# Altium integrated library Xilinx Spartan-3.IntLib: 75 symbols (part 9 of 16)
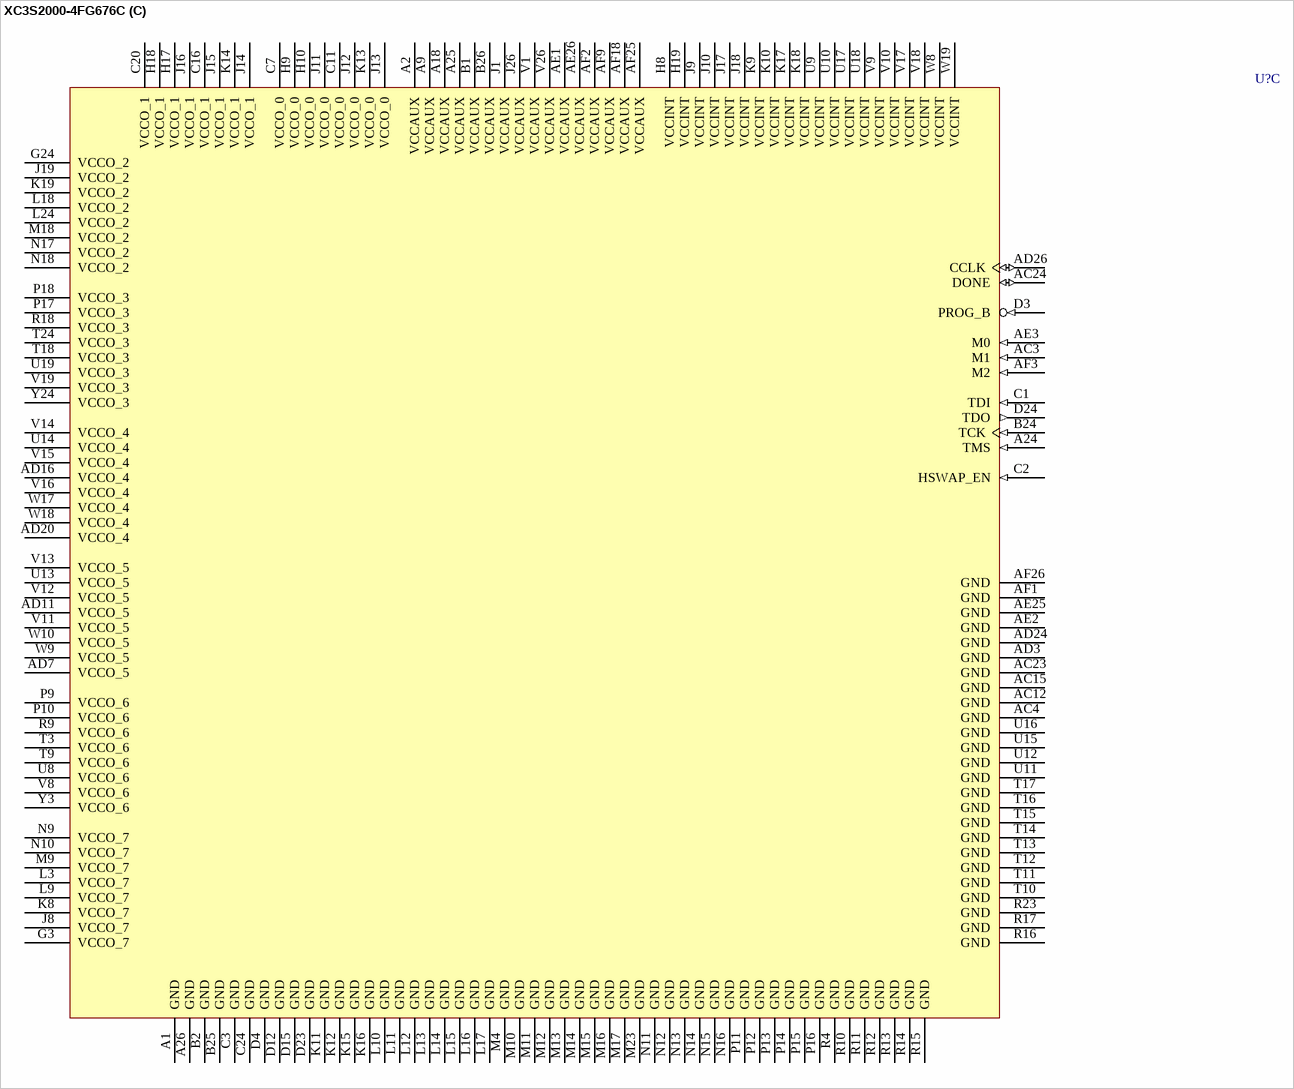
[diagram p175: symbol XC3S2000-4FG676C]

## XC3S2000-4FG676C
designator U?
Spartan-3 1.2V FPGA, 489 User I/Os, 676-ball FBGA, Standard Performance, Commercial Grade; PackageDocument: ver1.1, Apr-2001; Published: 17-Sep-2003; DatasheetDocument: 04-Mar-2004; PackageReference: FG676; Publisher: Altium Limited; Code_JEDEC: MS-034-AAL-1; Code_IPC: PBGA 27X27 FE676
footprint FG676 (676-Ball Fine Pitch Ball Grid Array (FG676))
3D model XC3S2000-FG676 (676-Ball Fine Pitch Ball Grid Array (FG676))
signal-integrity model XC3S2000_FG676 (Spartan-3)
part A pins: A3 IO (io), A4 IO_L05P_0/VREF_0 (io), A5 IO (io), A6 IO (io), A7 IO_L10P_0 (io), A8 IO_L15P_0 (io), A10 IO_L23P_0 (io), A11 IO_L26P_0/VREF_0 (io), A12 IO_L29P_0 (io), A13 IO_L32P_0/GCLK6 (io), AA1 IO_L09P_6 (io), AA2 IO_L09N_6/VREF_6 (io), AA3 IO_L07P_6 (io), AA4 IO_L07N_6 (io), AA5 IO (io), AA14 IO_L30P_4/D3 (io), AA15 IO_L28N_4 (io), AA16 IO_L24P_4 (io), AA17 IO_L19P_4 (io), AA18 IO_L16P_4 (io), AA19 IO_L11P_4 (io), AA20 IO (io), AB1 IO_L05P_6 (io), AB2 IO_L05N_6 (io), AB3 IO_L02P_6 (io), AB4 IO_L02N_6 (io), AB14 IO/VREF_4 (io), AB15 IO_L28P_4 (io), AB16 IO_L25N_4 (io), AB17 IO_L22P_4 (io), AB18 IO_L17N_4 (io), AB19 IO_L12N_4 (io), AB20 IO_L09N_4 (io), AB21 IO_L07N_4 (io), AB22 IO_L01N_4/VRP_4 (io), AC1 IO_L03P_6 (io), AC2 IO_L03N_6/VREF_6 (io), AC14 IO_L31N_4/INIT_B (io), AC16 IO_L25P_4 (io), AC17 IO_L19N_4 (io), AC18 IO_L17P_4 (io), AC19 IO_L12P_4 (io), AC20 IO_L09P_4 (io), AC21 IO_L07P_4 (io), AC22 IO_L01P_4/VRN_4 (io), AD1 IO_L01P_6/VRN_6 (io), AD2 IO_L01N_6/VRP_6 (io), AD14 IO_L31P_4/DOUT/BUSY (io), AD15 IO (io), AD17 IO_L22N_4/VREF_4 (io), AD18 IO_L18N_4 (io), AD19 IO (io), AD21 IO_L08N_4 (io), AD22 IO_L06N_4/VREF_4 (io), AD23 IO (io), AD25 IO/VREF_4 (io), AE14 IO_L32N_4/GCLK1 (io), AE15 IO_L29N_4 (io), AE16 IO_L26N_4 (io), AE17 IO_L23N_4 (io), AE18 IO_L18P_4 (io), AE19 IO_L15N_4 (io), AE20 IO_L10N_4 (io), AE21 IO_L08P_4 (io), AE22 IO_L06P_4 (io), AE23 IO_L05N_4 (io), AE24 IO_L04N_4 (io), AF14 IO_L32P_4/GCLK0 (io), AF15 IO_L29P_4 (io), AF16 IO_L26P_4/VREF_4 (io), AF17 IO_L23P_4 (io), AF19 IO_L15P_4 (io), AF20 IO_L10P_4 (io), AF21 IO (io), AF22 IO (io), AF23 IO_L05P_4 (io), AF24 IO_L04P_4 (io), B3 IO/VREF_0 (io), B4 IO_L05N_0 (io), B5 IO_L06P_0 (io), B6 IO_L08P_0 (io), B7 IO_L10N_0 (io), B8 IO_L15N_0 (io), B9 IO_L18P_0 (io), B10 IO_L23N_0 (io), B11 IO_L26N_0 (io), B12 IO_L29N_0 (io), B13 IO_L32N_0/GCLK7 (io), C4 IO (io), C5 IO_L06N_0 (io), C6 IO_L08N_0 (io), C8 IO (io), C9 IO_L18N_0 (io), C10 IO_L22P_0 (io), C12 IO (io), C13 IO_L31P_0/VREF_0 (io), C25 IO_L01N_2/VRP_2 (io), C26 IO_L01P_2/VRN_2 (io), D5 IO_L01P_0/VRN_0 (io), D6 IO_L07P_0 (io), D7 IO_L09P_0 (io), D8 IO_L12P_0 (io), D9 IO_L17P_0 (io), D10 IO_L22N_0 (io), D11 IO_L25P_0 (io), D13 IO_L31N_0 (io), D25 IO_L03N_2/VREF_2 (io), D26 IO_L03P_2 (io), E5 IO_L01N_0/VRP_0 (io), E6 IO_L07N_0 (io), E7 IO_L09N_0 (io), E8 IO_L12N_0 (io), E9 IO_L17N_0 (io), E10 IO_L19P_0 (io), E11 IO_L25N_0 (io), E12 IO_L28P_0 (io), E13 IO (io), E23 IO_L02N_2 (io), E24 IO_L02P_2 (io), E25 IO_L05N_2 (io), E26 IO_L05P_2 (io), F7 IO/VREF_0 (io), F8 IO_L11P_0 (io), F9 IO_L16P_0 (io), F10 IO_L19N_0 (io), F11 IO_L24P_0 (io), F12 IO_L28N_0 (io), F13 IO_L30P_0 (io), F22 IO (io), F23 IO_L07N_2 (io), F24 IO_L07P_2 (io), F25 IO_L09N_2/VREF_2 (io), F26 IO_L09P_2 (io), G8 IO_L11N_0 (io), G9 IO_L16N_0 (io), G10 IO/VREF_0 (io), G11 IO_L24N_0 (io), G12 IO_L27N_0 (io), G13 IO_L30N_0 (io), G20 IO_L06N_2 (io), G21 IO_L06P_2 (io), G22 IO_L08N_2 (io), G23 IO_L08P_2 (io), G25 IO_L10N_2 (io), G26 IO_L10P_2 (io), H11 IO (io), H12 IO (io), H13 IO_L27P_0 (io), H20 IO_L14N_2 (io), H21 IO_L14P_2 (io), H22 IO_L16N_2 (io), H23 IO_L17N_2 (io), H24 IO_L17P_2/VREF_2 (io), H25 IO_L19N_2 (io), H26 IO_L19P_2 (io), J20 IO_L20N_2 (io), J21 IO_L16P_2 (io), J22 IO_L21N_2 (io), J23 IO_L21P_2 (io), J24 IO_L22N_2 (io), J25 IO_L22P_2 (io), K20 IO_L20P_2 (io), K21 IO_L23N_2/VREF_2 (io), K22 IO_L23P_2 (io), K23 IO_L24N_2 (io), K24 IO_L24P_2 (io), K25 IO_L26N_2 (io), K26 IO_L26P_2 (io), L19 IO_L27N_2 (io), L20 IO_L27P_2 (io), L21 IO_L28N_2 (io), L22 IO_L28P_2 (io), L23 IO_L33N_2 (io), L25 IO_L29N_2 (io), L26 IO_L29P_2 (io), M19 IO_L31N_2 (io), M20 IO_L31P_2 (io), M21 IO_L32N_2 (io), M22 IO_L32P_2 (io), M24 IO_L33P_2 (io), M25 IO_L34N_2/VREF_2 (io), M26 IO_L34P_2 (io), N19 IO_L35N_2 (io), N20 IO_L35P_2 (io), N21 IO_L38N_2 (io), N22 IO_L38P_2 (io), N23 IO_L39N_2 (io), N24 IO_L39P_2 (io), N25 IO_L40N_2 (io), N26 IO_L40P_2/VREF_2 (io), P1 IO_L40P_6/VREF_6 (io), P2 IO_L40N_6 (io), P3 IO_L39P_6 (io), P4 IO_L39N_6 (io), P5 IO_L38P_6 (io), P6 IO_L38N_6 (io), P7 IO_L35P_6 (io), P8 IO_L35N_6 (io), R1 IO_L34P_6 (io), R2 IO_L34N_6/VREF_6 (io), R3 IO_L33P_6 (io), R5 IO_L32P_6 (io), R6 IO_L32N_6 (io), R7 IO_L31P_6 (io), R8 IO_L31N_6 (io), T1 IO_L29P_6 (io), T2 IO_L29N_6 (io), T4 IO_L33N_6 (io), T5 IO_L28P_6 (io), T6 IO_L28N_6 (io), T7 IO_L27P_6 (io), T8 IO_L27N_6 (io), U1 IO_L26P_6 (io), U2 IO_L26N_6 (io), U3 IO_L24P_6 (io), U4 IO_L24N_6/VREF_6 (io), U5 IO_L23P_6 (io), U6 IO_L23N_6 (io), U7 IO_L20P_6 (io), V2 IO_L22P_6 (io), V3 IO_L22N_6 (io), V4 IO_L21P_6 (io), V5 IO_L21N_6 (io), V6 IO_L16N_6 (io), V7 IO_L20N_6 (io), W1 IO_L19P_6 (io), W2 IO_L19N_6 (io), W3 IO_L17P_6/VREF_6 (io), W4 IO_L17N_6 (io), W5 IO_L16P_6 (io), W6 IO_L14P_6 (io), W7 IO_L14N_6 (io), W14 IO_L27P_4/D1 (io), W15 IO (io), W16 IO (io), Y1 IO_L10P_6 (io), Y2 IO_L10N_6 (io), Y4 IO_L08P_6 (io), Y5 IO_L08N_6 (io), Y6 IO_L06P_6 (io), Y7 IO_L06N_6 (io), Y14 IO_L30N_4/D2 (io), Y15 IO_L27N_4/DIN/D0 (io), Y16 IO_L24N_4 (io), Y17 IO/VREF_4 (io), Y18 IO_L16N_4 (io), Y19 IO_L11N_4 (io)
part B pins: A14 IO (io), A15 IO_L29N_1 (io), A16 IO_L26N_1 (io), A17 IO_L23N_1 (io), A19 IO_L15N_1 (io), A20 IO_L10N_1/VREF_1 (io), A21 IO_L08N_1 (io), A22 IO (io), A23 IO (io), AA6 IO_L05P_5 (io), AA7 IO (io), AA8 IO_L11P_5 (io), AA9 IO_L16N_5 (io), AA10 IO_L19N_5 (io), AA11 IO_L25P_5 (io), AA12 IO_L28P_5/D7 (io), AA13 IO (io), AA21 IO_L01P_3/VRN_3 (io), AA22 IO_L01N_3/VRP_3 (io), AA23 IO_L07P_3 (io), AA24 IO_L07N_3 (io), AA25 IO_L09P_3/VREF_3 (io), AA26 IO_L09N_3 (io), AB5 IO_L01P_5/CS_B (io), AB6 IO_L05N_5 (io), AB7 IO_L09P_5 (io), AB8 IO_L11N_5/VREF_5 (io), AB9 IO (io), AB10 IO_L22P_5 (io), AB11 IO_L25N_5 (io), AB12 IO_L28N_5/D6 (io), AB13 IO_L31P_5/D5 (io), AB23 IO_L02P_3 (io), AB24 IO_L02N_3/VREF_3 (io), AB25 IO_L06P_3 (io), AB26 IO_L06N_3 (io), AC5 IO_L01N_5/RDWR_B (io), AC6 IO_L07P_5 (io), AC7 IO_L09N_5 (io), AC8 IO_L12P_5 (io), AC9 IO (io), AC10 IO_L22N_5 (io), AC11 IO (io), AC13 IO_L31N_5/D4 (io), AC25 IO_L03P_3 (io), AC26 IO_L03N_3 (io), AD4 IO_L04P_5 (io), AD5 IO_L06P_5 (io), AD6 IO_L07N_5 (io), AD8 IO_L12N_5 (io), AD9 IO_L18P_5 (io), AD10 IO (io), AD12 IO (io), AD13 IO_L32P_5/GCLK2 (io), AE4 IO_L04N_5 (io), AE5 IO_L06N_5 (io), AE6 IO_L08P_5 (io), AE7 IO_L10P_5/VRN_5 (io), AE8 IO_L15P_5 (io), AE9 IO_L18N_5 (io), AE10 IO_L23P_5 (io), AE11 IO_L26P_5 (io), AE12 IO_L29P_5/VREF_5 (io), AE13 IO_L32N_5/GCLK3 (io), AF4 IO (io), AF5 IO/VREF_5 (io), AF6 IO_L08N_5 (io), AF7 IO_L10N_5/VRP_5 (io), AF8 IO_L15N_5 (io), AF10 IO_L23N_5 (io), AF11 IO_L26N_5 (io), AF12 IO_L29N_5 (io), AF13 IO/VREF_5 (io), B14 IO_L32N_1/GCLK5 (io), B15 IO_L29P_1 (io), B16 IO_L26P_1 (io), B17 IO_L23P_1 (io), B18 IO_L18N_1 (io), B19 IO_L15P_1 (io), B20 IO_L10P_1 (io), B21 IO_L08P_1 (io), B22 IO_L06N_1/VREF_1 (io), B23 IO_L04N_1 (io), C14 IO_L32P_1/GCLK4 (io), C15 IO/VREF_1 (io), C17 IO/VREF_1 (io), C18 IO_L18P_1 (io), C19 IO_L12N_1 (io), C21 IO_L07N_1 (io), C22 IO_L06P_1 (io), C23 IO_L04P_1 (io), D1 IO_L03N_7/VREF_7 (io), D2 IO_L03P_7 (io), D14 IO_L31N_1/VREF_1 (io), D16 IO (io), D17 IO_L22N_1 (io), D18 IO/VREF_1 (io), D19 IO_L12P_1 (io), D20 IO_L09N_1 (io), D21 IO_L07P_1 (io), D22 IO_L01N_1/VRP_1 (io), E1 IO_L06N_7 (io), E2 IO_L06P_7 (io), E3 IO_L02N_7 (io), E4 IO_L02P_7 (io), E14 IO_L31P_1 (io), E15 IO_L28N_1 (io), E16 IO_L25N_1 (io), E17 IO_L22P_1 (io), E18 IO (io), E19 IO_L11N_1 (io), E20 IO_L09P_1 (io), E21 IO_L05N_1 (io), E22 IO_L01P_1/VRN_1 (io), F1 IO_L09N_7 (io), F2 IO_L09P_7 (io), F3 IO_L07N_7 (io), F4 IO_L07P_7 (io), F5 IO_L01N_7/VRP_7 (io), F6 IO_L01P_7/VRN_7 (io), F14 IO (io), F15 IO_L28P_1 (io), F16 IO_L25P_1 (io), F17 IO_L19N_1 (io), F18 IO_L16N_1 (io), F19 IO_L11P_1 (io), F20 IO (io), F21 IO_L05P_1 (io), G1 IO_L14N_7 (io), G2 IO_L14P_7 (io), G4 IO_L08N_7 (io), G5 IO_L08P_7 (io), G6 IO_L05N_7 (io), G7 IO_L05P_7 (io), G14 IO_L30N_1 (io), G15 IO_L27N_1 (io), G16 IO_L24N_1 (io), G17 IO_L19P_1 (io), G18 IO_L16P_1 (io), G19 IO (io), H1 IO_L19N_7/VREF_7 (io), H2 IO_L19P_7 (io), H3 IO_L17N_7 (io), H4 IO_L17P_7 (io), H5 IO_L16P_7/VREF_7 (io), H6 IO_L10N_7 (io), H7 IO_L10P_7/VREF_7 (io), H14 IO_L30P_1 (io), H15 IO_L27P_1 (io), H16 IO_L24P_1 (io), J2 IO_L22N_7 (io), J3 IO_L22P_7 (io), J4 IO_L21N_7 (io), J5 IO_L21P_7 (io), J6 IO_L16N_7 (io), J7 IO_L20P_7 (io), K1 IO_L26N_7 (io), K2 IO_L26P_7 (io), K3 IO_L24N_7 (io), K4 IO_L24P_7 (io), K5 IO_L23N_7 (io), K6 IO_L23P_7 (io), K7 IO_L20N_7 (io), L1 IO_L29N_7 (io), L2 IO_L29P_7 (io), L4 IO_L33P_7 (io), L5 IO_L28N_7 (io), L6 IO_L28P_7 (io), L7 IO_L27N_7 (io), L8 IO_L27P_7/VREF_7 (io), M1 IO_L34N_7 (io), M2 IO_L34P_7 (io), M3 IO_L33N_7 (io), M5 IO_L32P_7 (io), M6 IO_L32N_7 (io), M7 IO_L31N_7 (io), M8 IO_L31P_7 (io), N1 IO_L40N_7/VREF_7 (io), N2 IO_L40P_7 (io), N3 IO_L39N_7 (io), N4 IO_L39P_7 (io), N5 IO_L38N_7 (io), N6 IO_L38P_7 (io), N7 IO_L35N_7 (io), N8 IO_L35P_7 (io), P19 IO_L35P_3 (io), P20 IO_L35N_3 (io), P21 IO_L38P_3 (io), P22 IO_L38N_3 (io), P23 IO_L39P_3 (io), P24 IO_L39N_3 (io), P25 IO_L40P_3 (io), P26 IO_L40N_3/VREF_3 (io), R19 IO_L31P_3 (io), R20 IO_L31N_3 (io), R21 IO_L32P_3 (io), R22 IO_L32N_3 (io), R24 IO_L33N_3 (io), R25 IO_L34P_3/VREF_3 (io), R26 IO_L34N_3 (io), T19 IO_L27P_3 (io), T20 IO_L27N_3 (io), T21 IO_L28P_3 (io), T22 IO_L28N_3 (io), T23 IO_L33P_3 (io), T25 IO_L29P_3 (io), T26 IO_L29N_3 (io), U20 IO_L20N_3 (io), U21 IO_L23P_3/VREF_3 (io), U22 IO_L23N_3 (io), U23 IO_L24P_3 (io), U24 IO_L24N_3 (io), U25 IO_L26P_3 (io), U26 IO_L26N_3 (io), V20 IO_L20P_3 (io), V21 IO_L16N_3 (io), V22 IO_L21P_3 (io), V23 IO_L21N_3 (io), V24 IO_L22P_3 (io), V25 IO_L22N_3 (io), W11 IO_L24P_5 (io), W12 IO_L27P_5 (io), W13 IO_L30P_5 (io), W20 IO_L10P_3 (io), W21 IO_L10N_3 (io), W22 IO_L16P_3 (io), W23 IO_L17P_3/VREF_3 (io), W24 IO_L17N_3 (io), W25 IO_L19P_3 (io), W26 IO_L19N_3 (io), Y8 IO (io), Y9 IO_L16P_5 (io), Y10 IO_L19P_5/VREF_5 (io), Y11 IO_L24N_5 (io), Y12 IO_L27N_5/VREF_5 (io), Y13 IO_L30N_5 (io), Y20 IO_L05P_3 (io), Y21 IO_L05N_3 (io), Y22 IO_L08P_3 (io), Y23 IO_L08N_3 (io), Y25 IO_L14P_3 (io), Y26 IO_L14N_3 (io)
part C pins: A1 GND (power), A2 VCCAUX (power), A9 VCCAUX (power), A18 VCCAUX (power), A24 TMS (in), A25 VCCAUX (power), A26 GND (power), AC3 M1 (in), AC4 GND (power), AC12 GND (power), AC15 GND (power), AC23 GND (power), AC24 DONE (io), AD3 GND (power), AD7 VCCO_5 (power), AD11 VCCO_5 (power), AD16 VCCO_4 (power), AD20 VCCO_4 (power), AD24 GND (power), AD26 CCLK (io), AE1 VCCAUX (power), AE2 GND (power), AE3 M0 (in), AE25 GND (power), AE26 VCCAUX (power), AF1 GND (power), AF2 VCCAUX (power), AF3 M2 (in), AF9 VCCAUX (power), AF18 VCCAUX (power), AF25 VCCAUX (power), AF26 GND (power), B1 VCCAUX (power), B2 GND (power), B24 TCK (in), B25 GND (power), B26 VCCAUX (power), C1 TDI (in), C2 HSWAP_EN (in), C3 GND (power), C7 VCCO_0 (power), C11 VCCO_0 (power), C16 VCCO_1 (power), C20 VCCO_1 (power), C24 GND (power), D3 PROG_B (in), D4 GND (power), D12 GND (power), D15 GND (power), D23 GND (power), D24 TDO (out), G3 VCCO_7 (power), G24 VCCO_2 (power), H8 VCCINT (power), H9 VCCO_0 (power), H10 VCCO_0 (power), H17 VCCO_1 (power), H18 VCCO_1 (power), H19 VCCINT (power), J1 VCCAUX (power), J8 VCCO_7 (power), J9 VCCINT (power), J10 VCCINT (power), J11 VCCO_0 (power), J12 VCCO_0 (power), J13 VCCO_0 (power), J14 VCCO_1 (power), J15 VCCO_1 (power), J16 VCCO_1 (power), J17 VCCINT (power), J18 VCCINT (power), J19 VCCO_2 (power), J26 VCCAUX (power), K8 VCCO_7 (power), K9 VCCINT (power), K10 VCCINT (power), K11 GND (power), K12 GND (power), K13 VCCO_0 (power), K14 VCCO_1 (power), K15 GND (power), K16 GND (power), K17 VCCINT (power), K18 VCCINT (power), K19 VCCO_2 (power), L3 VCCO_7 (power), L9 VCCO_7 (power), L10 GND (power), L11 GND (power), L12 GND (power), L13 GND (power), L14 GND (power), L15 GND (power), L16 GND (power), L17 GND (power), L18 VCCO_2 (power), L24 VCCO_2 (power), M4 GND (power), M9 VCCO_7 (power), M10 GND (power), M11 GND (power), M12 GND (power), M13 GND (power), M14 GND (power), M15 GND (power), M16 GND (power), M17 GND (power), M18 VCCO_2 (power), M23 GND (power), N9 VCCO_7 (power), N10 VCCO_7 (power), N11 GND (power), N12 GND (power), N13 GND (power), N14 GND (power), N15 GND (power), N16 GND (power), N17 VCCO_2 (power), N18 VCCO_2 (power), P9 VCCO_6 (power), P10 VCCO_6 (power), P11 GND (power), P12 GND (power), P13 GND (power), P14 GND (power), P15 GND (power), P16 GND (power), P17 VCCO_3 (power), P18 VCCO_3 (power), R4 GND (power), R9 VCCO_6 (power), R10 GND (power), R11 GND (power), R12 GND (power), R13 GND (power), R14 GND (power), R15 GND (power), R16 GND (power), R17 GND (power), R18 VCCO_3 (power), R23 GND (power), T3 VCCO_6 (power), T9 VCCO_6 (power), T10 GND (power), T11 GND (power), T12 GND (power), T13 GND (power), T14 GND (power), T15 GND (power), T16 GND (power), T17 GND (power), T18 VCCO_3 (power), T24 VCCO_3 (power), U8 VCCO_6 (power), U9 VCCINT (power), U10 VCCINT (power), U11 GND (power), U12 GND (power), U13 VCCO_5 (power), U14 VCCO_4 (power), U15 GND (power), U16 GND (power), U17 VCCINT (power), U18 VCCINT (power), U19 VCCO_3 (power), V1 VCCAUX (power), V8 VCCO_6 (power), V9 VCCINT (power), V10 VCCINT (power), V11 VCCO_5 (power), V12 VCCO_5 (power), V13 VCCO_5 (power), V14 VCCO_4 (power), V15 VCCO_4 (power), V16 VCCO_4 (power), V17 VCCINT (power), V18 VCCINT (power), V19 VCCO_3 (power), V26 VCCAUX (power), W8 VCCINT (power), W9 VCCO_5 (power), W10 VCCO_5 (power), W17 VCCO_4 (power), W18 VCCO_4 (power), W19 VCCINT (power), Y3 VCCO_6 (power), Y24 VCCO_3 (power)
part A text: BANK 0; BANK 6; BANK 2; BANK 4
part B text: BANK 1; BANK 7; BANK 3; BANK 5

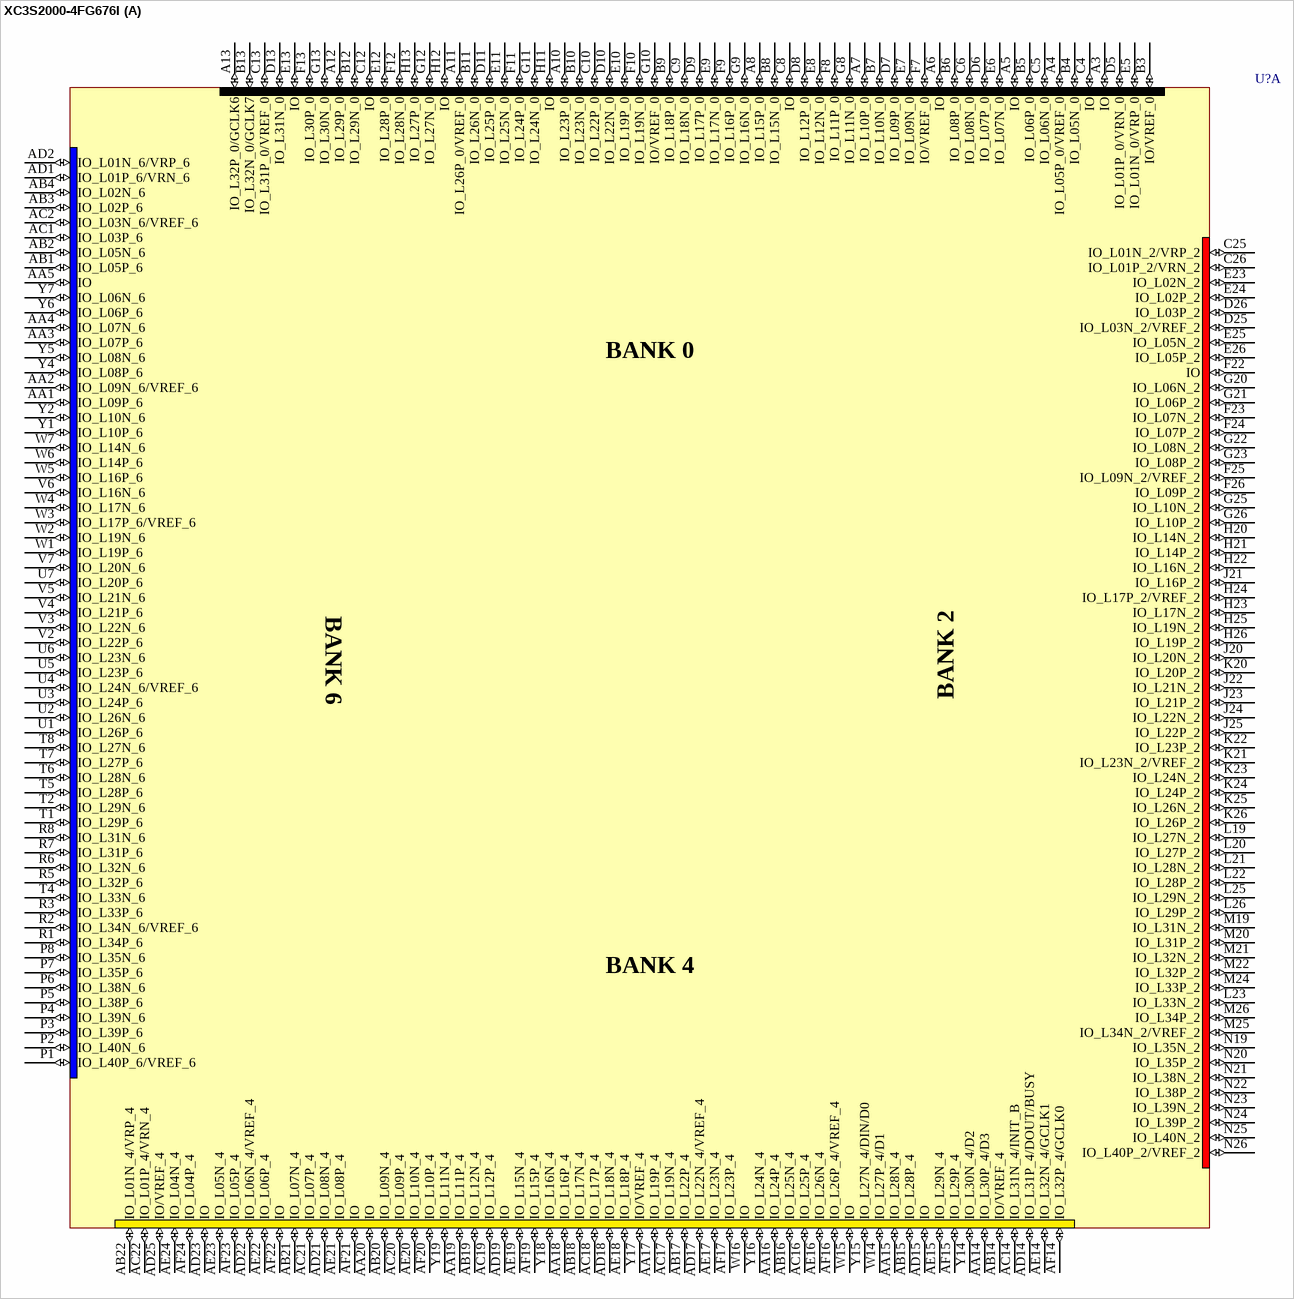
[diagram p81: symbol XC3S2000-4FG676I]

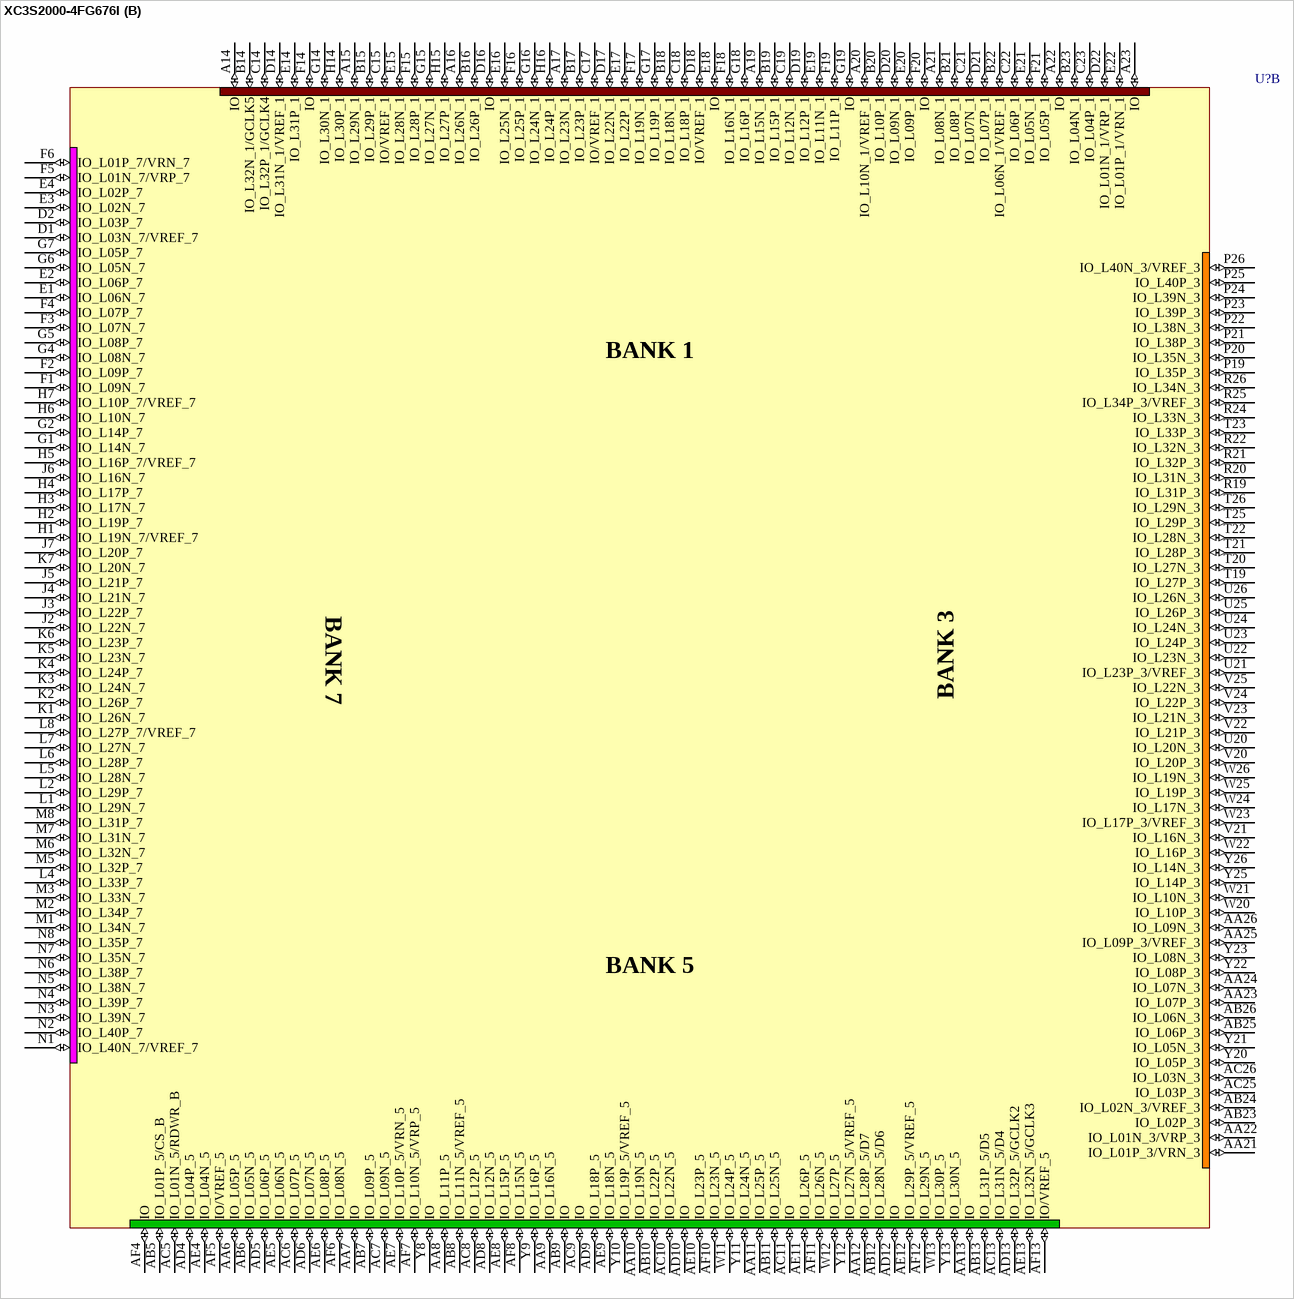
[diagram p82: symbol XC3S2000-4FG676I]

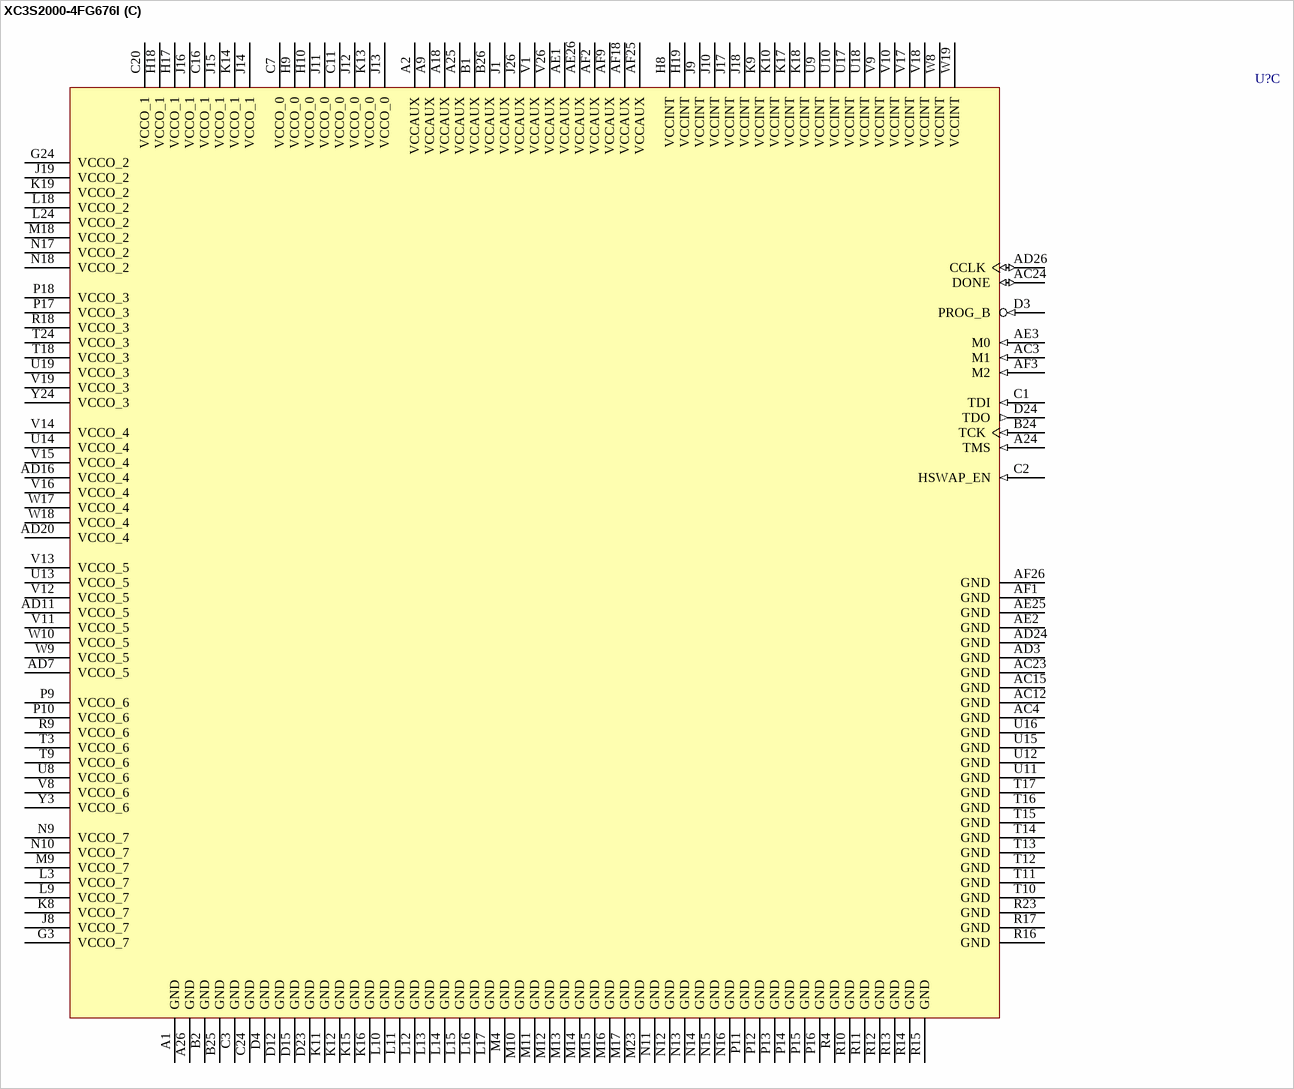
[diagram p83: symbol XC3S2000-4FG676I]

## XC3S2000-4FG676I
designator U?
Spartan-3 1.2V FPGA, 489 User I/Os, 676-ball FBGA, Standard Performance, Industrial Grade; PackageDocument: ver1.1, Apr-2001; Published: 17-Sep-2003; DatasheetDocument: 04-Mar-2004; PackageReference: FG676; Publisher: Altium Limited; Code_JEDEC: MS-034-AAL-1; Code_IPC: PBGA 27X27 FE676
footprint FG676 (676-Ball Fine Pitch Ball Grid Array (FG676))
3D model XC3S2000-FG676 (676-Ball Fine Pitch Ball Grid Array (FG676))
signal-integrity model XC3S2000_FG676 (Spartan-3)
part A pins: A3 IO (io), A4 IO_L05P_0/VREF_0 (io), A5 IO (io), A6 IO (io), A7 IO_L10P_0 (io), A8 IO_L15P_0 (io), A10 IO_L23P_0 (io), A11 IO_L26P_0/VREF_0 (io), A12 IO_L29P_0 (io), A13 IO_L32P_0/GCLK6 (io), AA1 IO_L09P_6 (io), AA2 IO_L09N_6/VREF_6 (io), AA3 IO_L07P_6 (io), AA4 IO_L07N_6 (io), AA5 IO (io), AA14 IO_L30P_4/D3 (io), AA15 IO_L28N_4 (io), AA16 IO_L24P_4 (io), AA17 IO_L19P_4 (io), AA18 IO_L16P_4 (io), AA19 IO_L11P_4 (io), AA20 IO (io), AB1 IO_L05P_6 (io), AB2 IO_L05N_6 (io), AB3 IO_L02P_6 (io), AB4 IO_L02N_6 (io), AB14 IO/VREF_4 (io), AB15 IO_L28P_4 (io), AB16 IO_L25N_4 (io), AB17 IO_L22P_4 (io), AB18 IO_L17N_4 (io), AB19 IO_L12N_4 (io), AB20 IO_L09N_4 (io), AB21 IO_L07N_4 (io), AB22 IO_L01N_4/VRP_4 (io), AC1 IO_L03P_6 (io), AC2 IO_L03N_6/VREF_6 (io), AC14 IO_L31N_4/INIT_B (io), AC16 IO_L25P_4 (io), AC17 IO_L19N_4 (io), AC18 IO_L17P_4 (io), AC19 IO_L12P_4 (io), AC20 IO_L09P_4 (io), AC21 IO_L07P_4 (io), AC22 IO_L01P_4/VRN_4 (io), AD1 IO_L01P_6/VRN_6 (io), AD2 IO_L01N_6/VRP_6 (io), AD14 IO_L31P_4/DOUT/BUSY (io), AD15 IO (io), AD17 IO_L22N_4/VREF_4 (io), AD18 IO_L18N_4 (io), AD19 IO (io), AD21 IO_L08N_4 (io), AD22 IO_L06N_4/VREF_4 (io), AD23 IO (io), AD25 IO/VREF_4 (io), AE14 IO_L32N_4/GCLK1 (io), AE15 IO_L29N_4 (io), AE16 IO_L26N_4 (io), AE17 IO_L23N_4 (io), AE18 IO_L18P_4 (io), AE19 IO_L15N_4 (io), AE20 IO_L10N_4 (io), AE21 IO_L08P_4 (io), AE22 IO_L06P_4 (io), AE23 IO_L05N_4 (io), AE24 IO_L04N_4 (io), AF14 IO_L32P_4/GCLK0 (io), AF15 IO_L29P_4 (io), AF16 IO_L26P_4/VREF_4 (io), AF17 IO_L23P_4 (io), AF19 IO_L15P_4 (io), AF20 IO_L10P_4 (io), AF21 IO (io), AF22 IO (io), AF23 IO_L05P_4 (io), AF24 IO_L04P_4 (io), B3 IO/VREF_0 (io), B4 IO_L05N_0 (io), B5 IO_L06P_0 (io), B6 IO_L08P_0 (io), B7 IO_L10N_0 (io), B8 IO_L15N_0 (io), B9 IO_L18P_0 (io), B10 IO_L23N_0 (io), B11 IO_L26N_0 (io), B12 IO_L29N_0 (io), B13 IO_L32N_0/GCLK7 (io), C4 IO (io), C5 IO_L06N_0 (io), C6 IO_L08N_0 (io), C8 IO (io), C9 IO_L18N_0 (io), C10 IO_L22P_0 (io), C12 IO (io), C13 IO_L31P_0/VREF_0 (io), C25 IO_L01N_2/VRP_2 (io), C26 IO_L01P_2/VRN_2 (io), D5 IO_L01P_0/VRN_0 (io), D6 IO_L07P_0 (io), D7 IO_L09P_0 (io), D8 IO_L12P_0 (io), D9 IO_L17P_0 (io), D10 IO_L22N_0 (io), D11 IO_L25P_0 (io), D13 IO_L31N_0 (io), D25 IO_L03N_2/VREF_2 (io), D26 IO_L03P_2 (io), E5 IO_L01N_0/VRP_0 (io), E6 IO_L07N_0 (io), E7 IO_L09N_0 (io), E8 IO_L12N_0 (io), E9 IO_L17N_0 (io), E10 IO_L19P_0 (io), E11 IO_L25N_0 (io), E12 IO_L28P_0 (io), E13 IO (io), E23 IO_L02N_2 (io), E24 IO_L02P_2 (io), E25 IO_L05N_2 (io), E26 IO_L05P_2 (io), F7 IO/VREF_0 (io), F8 IO_L11P_0 (io), F9 IO_L16P_0 (io), F10 IO_L19N_0 (io), F11 IO_L24P_0 (io), F12 IO_L28N_0 (io), F13 IO_L30P_0 (io), F22 IO (io), F23 IO_L07N_2 (io), F24 IO_L07P_2 (io), F25 IO_L09N_2/VREF_2 (io), F26 IO_L09P_2 (io), G8 IO_L11N_0 (io), G9 IO_L16N_0 (io), G10 IO/VREF_0 (io), G11 IO_L24N_0 (io), G12 IO_L27N_0 (io), G13 IO_L30N_0 (io), G20 IO_L06N_2 (io), G21 IO_L06P_2 (io), G22 IO_L08N_2 (io), G23 IO_L08P_2 (io), G25 IO_L10N_2 (io), G26 IO_L10P_2 (io), H11 IO (io), H12 IO (io), H13 IO_L27P_0 (io), H20 IO_L14N_2 (io), H21 IO_L14P_2 (io), H22 IO_L16N_2 (io), H23 IO_L17N_2 (io), H24 IO_L17P_2/VREF_2 (io), H25 IO_L19N_2 (io), H26 IO_L19P_2 (io), J20 IO_L20N_2 (io), J21 IO_L16P_2 (io), J22 IO_L21N_2 (io), J23 IO_L21P_2 (io), J24 IO_L22N_2 (io), J25 IO_L22P_2 (io), K20 IO_L20P_2 (io), K21 IO_L23N_2/VREF_2 (io), K22 IO_L23P_2 (io), K23 IO_L24N_2 (io), K24 IO_L24P_2 (io), K25 IO_L26N_2 (io), K26 IO_L26P_2 (io), L19 IO_L27N_2 (io), L20 IO_L27P_2 (io), L21 IO_L28N_2 (io), L22 IO_L28P_2 (io), L23 IO_L33N_2 (io), L25 IO_L29N_2 (io), L26 IO_L29P_2 (io), M19 IO_L31N_2 (io), M20 IO_L31P_2 (io), M21 IO_L32N_2 (io), M22 IO_L32P_2 (io), M24 IO_L33P_2 (io), M25 IO_L34N_2/VREF_2 (io), M26 IO_L34P_2 (io), N19 IO_L35N_2 (io), N20 IO_L35P_2 (io), N21 IO_L38N_2 (io), N22 IO_L38P_2 (io), N23 IO_L39N_2 (io), N24 IO_L39P_2 (io), N25 IO_L40N_2 (io), N26 IO_L40P_2/VREF_2 (io), P1 IO_L40P_6/VREF_6 (io), P2 IO_L40N_6 (io), P3 IO_L39P_6 (io), P4 IO_L39N_6 (io), P5 IO_L38P_6 (io), P6 IO_L38N_6 (io), P7 IO_L35P_6 (io), P8 IO_L35N_6 (io), R1 IO_L34P_6 (io), R2 IO_L34N_6/VREF_6 (io), R3 IO_L33P_6 (io), R5 IO_L32P_6 (io), R6 IO_L32N_6 (io), R7 IO_L31P_6 (io), R8 IO_L31N_6 (io), T1 IO_L29P_6 (io), T2 IO_L29N_6 (io), T4 IO_L33N_6 (io), T5 IO_L28P_6 (io), T6 IO_L28N_6 (io), T7 IO_L27P_6 (io), T8 IO_L27N_6 (io), U1 IO_L26P_6 (io), U2 IO_L26N_6 (io), U3 IO_L24P_6 (io), U4 IO_L24N_6/VREF_6 (io), U5 IO_L23P_6 (io), U6 IO_L23N_6 (io), U7 IO_L20P_6 (io), V2 IO_L22P_6 (io), V3 IO_L22N_6 (io), V4 IO_L21P_6 (io), V5 IO_L21N_6 (io), V6 IO_L16N_6 (io), V7 IO_L20N_6 (io), W1 IO_L19P_6 (io), W2 IO_L19N_6 (io), W3 IO_L17P_6/VREF_6 (io), W4 IO_L17N_6 (io), W5 IO_L16P_6 (io), W6 IO_L14P_6 (io), W7 IO_L14N_6 (io), W14 IO_L27P_4/D1 (io), W15 IO (io), W16 IO (io), Y1 IO_L10P_6 (io), Y2 IO_L10N_6 (io), Y4 IO_L08P_6 (io), Y5 IO_L08N_6 (io), Y6 IO_L06P_6 (io), Y7 IO_L06N_6 (io), Y14 IO_L30N_4/D2 (io), Y15 IO_L27N_4/DIN/D0 (io), Y16 IO_L24N_4 (io), Y17 IO/VREF_4 (io), Y18 IO_L16N_4 (io), Y19 IO_L11N_4 (io)
part B pins: A14 IO (io), A15 IO_L29N_1 (io), A16 IO_L26N_1 (io), A17 IO_L23N_1 (io), A19 IO_L15N_1 (io), A20 IO_L10N_1/VREF_1 (io), A21 IO_L08N_1 (io), A22 IO (io), A23 IO (io), AA6 IO_L05P_5 (io), AA7 IO (io), AA8 IO_L11P_5 (io), AA9 IO_L16N_5 (io), AA10 IO_L19N_5 (io), AA11 IO_L25P_5 (io), AA12 IO_L28P_5/D7 (io), AA13 IO (io), AA21 IO_L01P_3/VRN_3 (io), AA22 IO_L01N_3/VRP_3 (io), AA23 IO_L07P_3 (io), AA24 IO_L07N_3 (io), AA25 IO_L09P_3/VREF_3 (io), AA26 IO_L09N_3 (io), AB5 IO_L01P_5/CS_B (io), AB6 IO_L05N_5 (io), AB7 IO_L09P_5 (io), AB8 IO_L11N_5/VREF_5 (io), AB9 IO (io), AB10 IO_L22P_5 (io), AB11 IO_L25N_5 (io), AB12 IO_L28N_5/D6 (io), AB13 IO_L31P_5/D5 (io), AB23 IO_L02P_3 (io), AB24 IO_L02N_3/VREF_3 (io), AB25 IO_L06P_3 (io), AB26 IO_L06N_3 (io), AC5 IO_L01N_5/RDWR_B (io), AC6 IO_L07P_5 (io), AC7 IO_L09N_5 (io), AC8 IO_L12P_5 (io), AC9 IO (io), AC10 IO_L22N_5 (io), AC11 IO (io), AC13 IO_L31N_5/D4 (io), AC25 IO_L03P_3 (io), AC26 IO_L03N_3 (io), AD4 IO_L04P_5 (io), AD5 IO_L06P_5 (io), AD6 IO_L07N_5 (io), AD8 IO_L12N_5 (io), AD9 IO_L18P_5 (io), AD10 IO (io), AD12 IO (io), AD13 IO_L32P_5/GCLK2 (io), AE4 IO_L04N_5 (io), AE5 IO_L06N_5 (io), AE6 IO_L08P_5 (io), AE7 IO_L10P_5/VRN_5 (io), AE8 IO_L15P_5 (io), AE9 IO_L18N_5 (io), AE10 IO_L23P_5 (io), AE11 IO_L26P_5 (io), AE12 IO_L29P_5/VREF_5 (io), AE13 IO_L32N_5/GCLK3 (io), AF4 IO (io), AF5 IO/VREF_5 (io), AF6 IO_L08N_5 (io), AF7 IO_L10N_5/VRP_5 (io), AF8 IO_L15N_5 (io), AF10 IO_L23N_5 (io), AF11 IO_L26N_5 (io), AF12 IO_L29N_5 (io), AF13 IO/VREF_5 (io), B14 IO_L32N_1/GCLK5 (io), B15 IO_L29P_1 (io), B16 IO_L26P_1 (io), B17 IO_L23P_1 (io), B18 IO_L18N_1 (io), B19 IO_L15P_1 (io), B20 IO_L10P_1 (io), B21 IO_L08P_1 (io), B22 IO_L06N_1/VREF_1 (io), B23 IO_L04N_1 (io), C14 IO_L32P_1/GCLK4 (io), C15 IO/VREF_1 (io), C17 IO/VREF_1 (io), C18 IO_L18P_1 (io), C19 IO_L12N_1 (io), C21 IO_L07N_1 (io), C22 IO_L06P_1 (io), C23 IO_L04P_1 (io), D1 IO_L03N_7/VREF_7 (io), D2 IO_L03P_7 (io), D14 IO_L31N_1/VREF_1 (io), D16 IO (io), D17 IO_L22N_1 (io), D18 IO/VREF_1 (io), D19 IO_L12P_1 (io), D20 IO_L09N_1 (io), D21 IO_L07P_1 (io), D22 IO_L01N_1/VRP_1 (io), E1 IO_L06N_7 (io), E2 IO_L06P_7 (io), E3 IO_L02N_7 (io), E4 IO_L02P_7 (io), E14 IO_L31P_1 (io), E15 IO_L28N_1 (io), E16 IO_L25N_1 (io), E17 IO_L22P_1 (io), E18 IO (io), E19 IO_L11N_1 (io), E20 IO_L09P_1 (io), E21 IO_L05N_1 (io), E22 IO_L01P_1/VRN_1 (io), F1 IO_L09N_7 (io), F2 IO_L09P_7 (io), F3 IO_L07N_7 (io), F4 IO_L07P_7 (io), F5 IO_L01N_7/VRP_7 (io), F6 IO_L01P_7/VRN_7 (io), F14 IO (io), F15 IO_L28P_1 (io), F16 IO_L25P_1 (io), F17 IO_L19N_1 (io), F18 IO_L16N_1 (io), F19 IO_L11P_1 (io), F20 IO (io), F21 IO_L05P_1 (io), G1 IO_L14N_7 (io), G2 IO_L14P_7 (io), G4 IO_L08N_7 (io), G5 IO_L08P_7 (io), G6 IO_L05N_7 (io), G7 IO_L05P_7 (io), G14 IO_L30N_1 (io), G15 IO_L27N_1 (io), G16 IO_L24N_1 (io), G17 IO_L19P_1 (io), G18 IO_L16P_1 (io), G19 IO (io), H1 IO_L19N_7/VREF_7 (io), H2 IO_L19P_7 (io), H3 IO_L17N_7 (io), H4 IO_L17P_7 (io), H5 IO_L16P_7/VREF_7 (io), H6 IO_L10N_7 (io), H7 IO_L10P_7/VREF_7 (io), H14 IO_L30P_1 (io), H15 IO_L27P_1 (io), H16 IO_L24P_1 (io), J2 IO_L22N_7 (io), J3 IO_L22P_7 (io), J4 IO_L21N_7 (io), J5 IO_L21P_7 (io), J6 IO_L16N_7 (io), J7 IO_L20P_7 (io), K1 IO_L26N_7 (io), K2 IO_L26P_7 (io), K3 IO_L24N_7 (io), K4 IO_L24P_7 (io), K5 IO_L23N_7 (io), K6 IO_L23P_7 (io), K7 IO_L20N_7 (io), L1 IO_L29N_7 (io), L2 IO_L29P_7 (io), L4 IO_L33P_7 (io), L5 IO_L28N_7 (io), L6 IO_L28P_7 (io), L7 IO_L27N_7 (io), L8 IO_L27P_7/VREF_7 (io), M1 IO_L34N_7 (io), M2 IO_L34P_7 (io), M3 IO_L33N_7 (io), M5 IO_L32P_7 (io), M6 IO_L32N_7 (io), M7 IO_L31N_7 (io), M8 IO_L31P_7 (io), N1 IO_L40N_7/VREF_7 (io), N2 IO_L40P_7 (io), N3 IO_L39N_7 (io), N4 IO_L39P_7 (io), N5 IO_L38N_7 (io), N6 IO_L38P_7 (io), N7 IO_L35N_7 (io), N8 IO_L35P_7 (io), P19 IO_L35P_3 (io), P20 IO_L35N_3 (io), P21 IO_L38P_3 (io), P22 IO_L38N_3 (io), P23 IO_L39P_3 (io), P24 IO_L39N_3 (io), P25 IO_L40P_3 (io), P26 IO_L40N_3/VREF_3 (io), R19 IO_L31P_3 (io), R20 IO_L31N_3 (io), R21 IO_L32P_3 (io), R22 IO_L32N_3 (io), R24 IO_L33N_3 (io), R25 IO_L34P_3/VREF_3 (io), R26 IO_L34N_3 (io), T19 IO_L27P_3 (io), T20 IO_L27N_3 (io), T21 IO_L28P_3 (io), T22 IO_L28N_3 (io), T23 IO_L33P_3 (io), T25 IO_L29P_3 (io), T26 IO_L29N_3 (io), U20 IO_L20N_3 (io), U21 IO_L23P_3/VREF_3 (io), U22 IO_L23N_3 (io), U23 IO_L24P_3 (io), U24 IO_L24N_3 (io), U25 IO_L26P_3 (io), U26 IO_L26N_3 (io), V20 IO_L20P_3 (io), V21 IO_L16N_3 (io), V22 IO_L21P_3 (io), V23 IO_L21N_3 (io), V24 IO_L22P_3 (io), V25 IO_L22N_3 (io), W11 IO_L24P_5 (io), W12 IO_L27P_5 (io), W13 IO_L30P_5 (io), W20 IO_L10P_3 (io), W21 IO_L10N_3 (io), W22 IO_L16P_3 (io), W23 IO_L17P_3/VREF_3 (io), W24 IO_L17N_3 (io), W25 IO_L19P_3 (io), W26 IO_L19N_3 (io), Y8 IO (io), Y9 IO_L16P_5 (io), Y10 IO_L19P_5/VREF_5 (io), Y11 IO_L24N_5 (io), Y12 IO_L27N_5/VREF_5 (io), Y13 IO_L30N_5 (io), Y20 IO_L05P_3 (io), Y21 IO_L05N_3 (io), Y22 IO_L08P_3 (io), Y23 IO_L08N_3 (io), Y25 IO_L14P_3 (io), Y26 IO_L14N_3 (io)
part C pins: A1 GND (power), A2 VCCAUX (power), A9 VCCAUX (power), A18 VCCAUX (power), A24 TMS (in), A25 VCCAUX (power), A26 GND (power), AC3 M1 (in), AC4 GND (power), AC12 GND (power), AC15 GND (power), AC23 GND (power), AC24 DONE (io), AD3 GND (power), AD7 VCCO_5 (power), AD11 VCCO_5 (power), AD16 VCCO_4 (power), AD20 VCCO_4 (power), AD24 GND (power), AD26 CCLK (io), AE1 VCCAUX (power), AE2 GND (power), AE3 M0 (in), AE25 GND (power), AE26 VCCAUX (power), AF1 GND (power), AF2 VCCAUX (power), AF3 M2 (in), AF9 VCCAUX (power), AF18 VCCAUX (power), AF25 VCCAUX (power), AF26 GND (power), B1 VCCAUX (power), B2 GND (power), B24 TCK (in), B25 GND (power), B26 VCCAUX (power), C1 TDI (in), C2 HSWAP_EN (in), C3 GND (power), C7 VCCO_0 (power), C11 VCCO_0 (power), C16 VCCO_1 (power), C20 VCCO_1 (power), C24 GND (power), D3 PROG_B (in), D4 GND (power), D12 GND (power), D15 GND (power), D23 GND (power), D24 TDO (out), G3 VCCO_7 (power), G24 VCCO_2 (power), H8 VCCINT (power), H9 VCCO_0 (power), H10 VCCO_0 (power), H17 VCCO_1 (power), H18 VCCO_1 (power), H19 VCCINT (power), J1 VCCAUX (power), J8 VCCO_7 (power), J9 VCCINT (power), J10 VCCINT (power), J11 VCCO_0 (power), J12 VCCO_0 (power), J13 VCCO_0 (power), J14 VCCO_1 (power), J15 VCCO_1 (power), J16 VCCO_1 (power), J17 VCCINT (power), J18 VCCINT (power), J19 VCCO_2 (power), J26 VCCAUX (power), K8 VCCO_7 (power), K9 VCCINT (power), K10 VCCINT (power), K11 GND (power), K12 GND (power), K13 VCCO_0 (power), K14 VCCO_1 (power), K15 GND (power), K16 GND (power), K17 VCCINT (power), K18 VCCINT (power), K19 VCCO_2 (power), L3 VCCO_7 (power), L9 VCCO_7 (power), L10 GND (power), L11 GND (power), L12 GND (power), L13 GND (power), L14 GND (power), L15 GND (power), L16 GND (power), L17 GND (power), L18 VCCO_2 (power), L24 VCCO_2 (power), M4 GND (power), M9 VCCO_7 (power), M10 GND (power), M11 GND (power), M12 GND (power), M13 GND (power), M14 GND (power), M15 GND (power), M16 GND (power), M17 GND (power), M18 VCCO_2 (power), M23 GND (power), N9 VCCO_7 (power), N10 VCCO_7 (power), N11 GND (power), N12 GND (power), N13 GND (power), N14 GND (power), N15 GND (power), N16 GND (power), N17 VCCO_2 (power), N18 VCCO_2 (power), P9 VCCO_6 (power), P10 VCCO_6 (power), P11 GND (power), P12 GND (power), P13 GND (power), P14 GND (power), P15 GND (power), P16 GND (power), P17 VCCO_3 (power), P18 VCCO_3 (power), R4 GND (power), R9 VCCO_6 (power), R10 GND (power), R11 GND (power), R12 GND (power), R13 GND (power), R14 GND (power), R15 GND (power), R16 GND (power), R17 GND (power), R18 VCCO_3 (power), R23 GND (power), T3 VCCO_6 (power), T9 VCCO_6 (power), T10 GND (power), T11 GND (power), T12 GND (power), T13 GND (power), T14 GND (power), T15 GND (power), T16 GND (power), T17 GND (power), T18 VCCO_3 (power), T24 VCCO_3 (power), U8 VCCO_6 (power), U9 VCCINT (power), U10 VCCINT (power), U11 GND (power), U12 GND (power), U13 VCCO_5 (power), U14 VCCO_4 (power), U15 GND (power), U16 GND (power), U17 VCCINT (power), U18 VCCINT (power), U19 VCCO_3 (power), V1 VCCAUX (power), V8 VCCO_6 (power), V9 VCCINT (power), V10 VCCINT (power), V11 VCCO_5 (power), V12 VCCO_5 (power), V13 VCCO_5 (power), V14 VCCO_4 (power), V15 VCCO_4 (power), V16 VCCO_4 (power), V17 VCCINT (power), V18 VCCINT (power), V19 VCCO_3 (power), V26 VCCAUX (power), W8 VCCINT (power), W9 VCCO_5 (power), W10 VCCO_5 (power), W17 VCCO_4 (power), W18 VCCO_4 (power), W19 VCCINT (power), Y3 VCCO_6 (power), Y24 VCCO_3 (power)
part A text: BANK 0; BANK 6; BANK 2; BANK 4
part B text: BANK 1; BANK 7; BANK 3; BANK 5

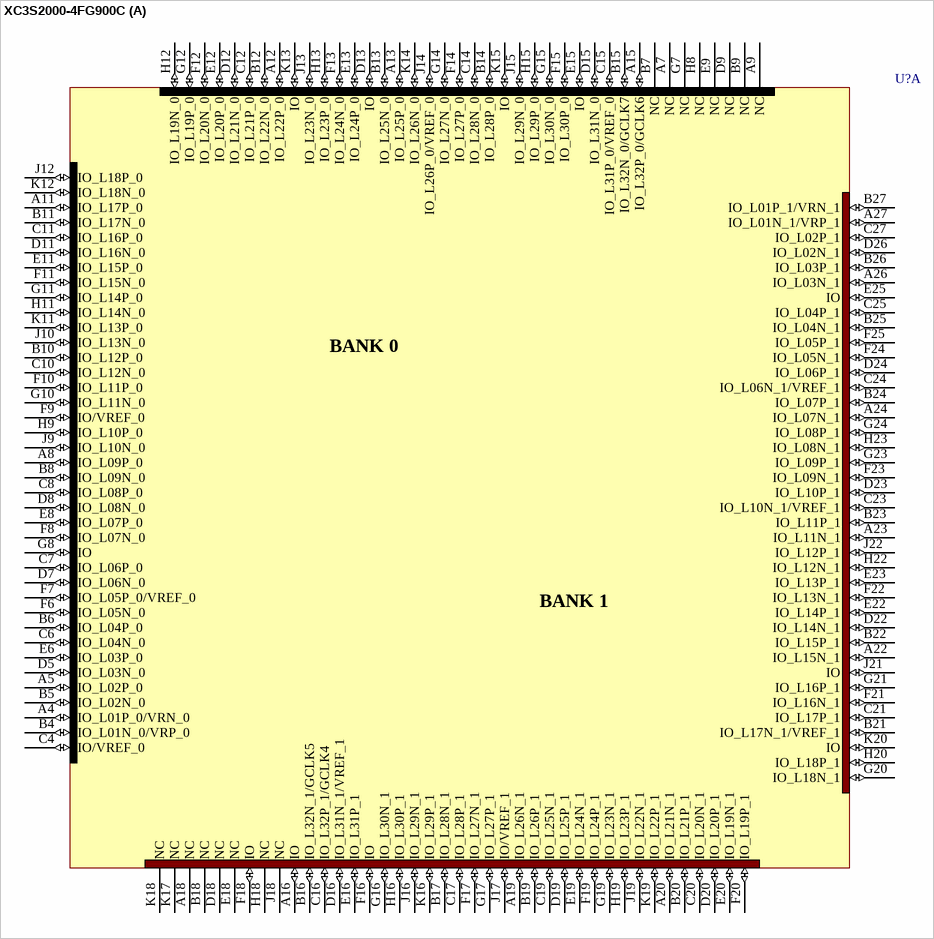
[diagram p84: symbol XC3S2000-4FG900C]

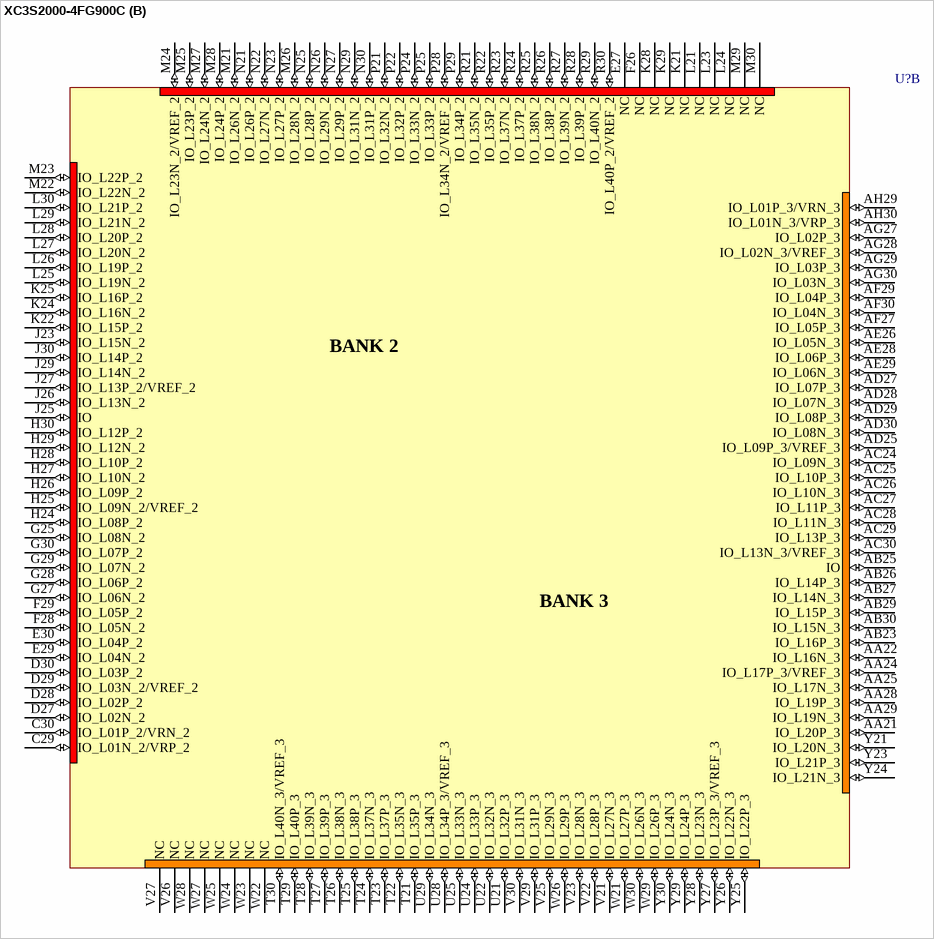
[diagram p85: symbol XC3S2000-4FG900C]

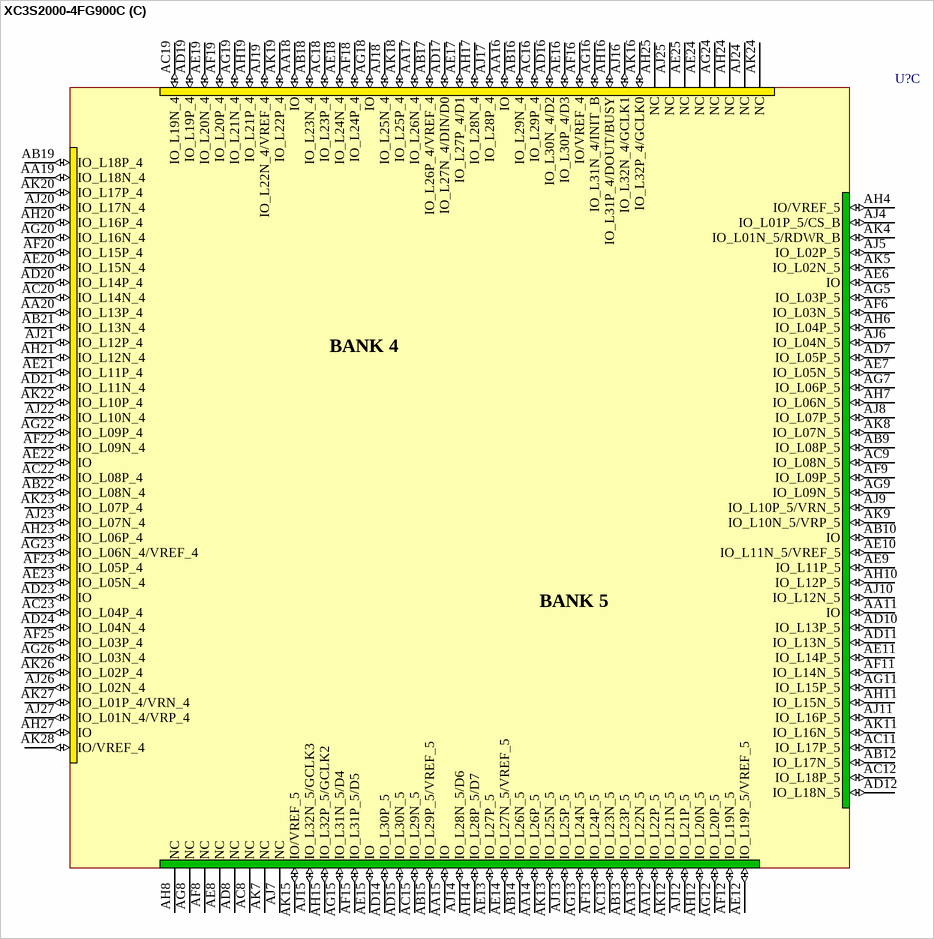
[diagram p86: symbol XC3S2000-4FG900C]

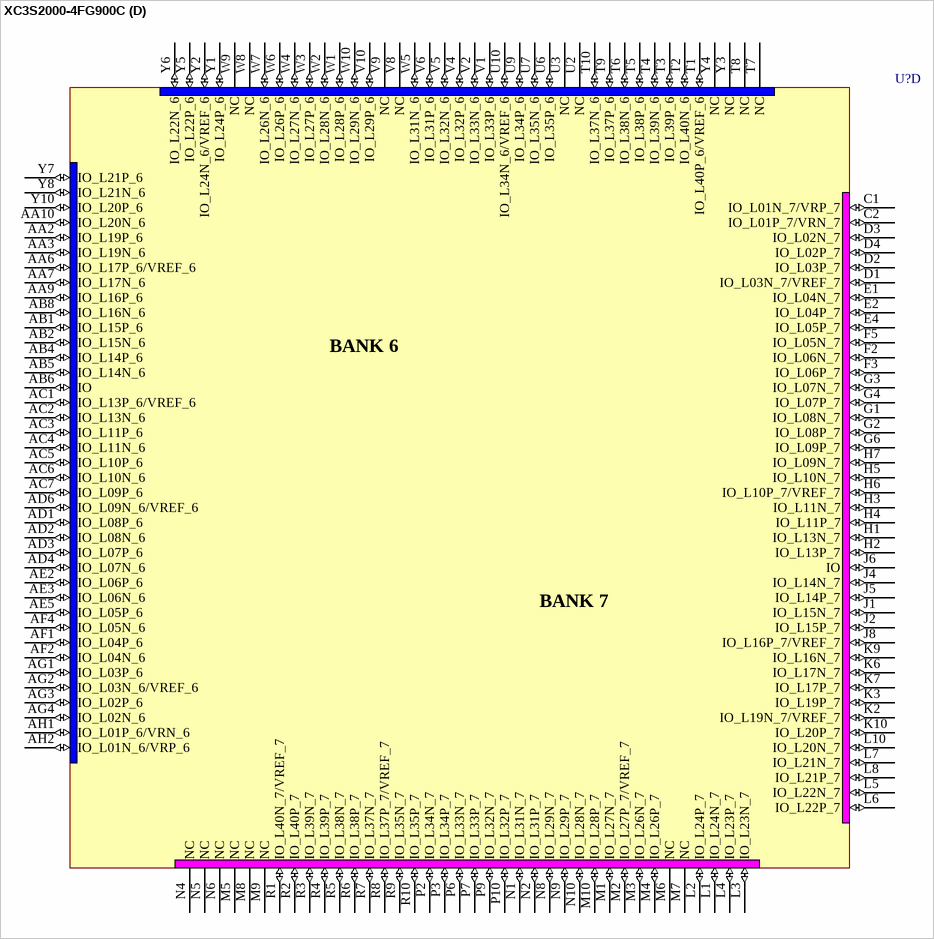
[diagram p87: symbol XC3S2000-4FG900C]

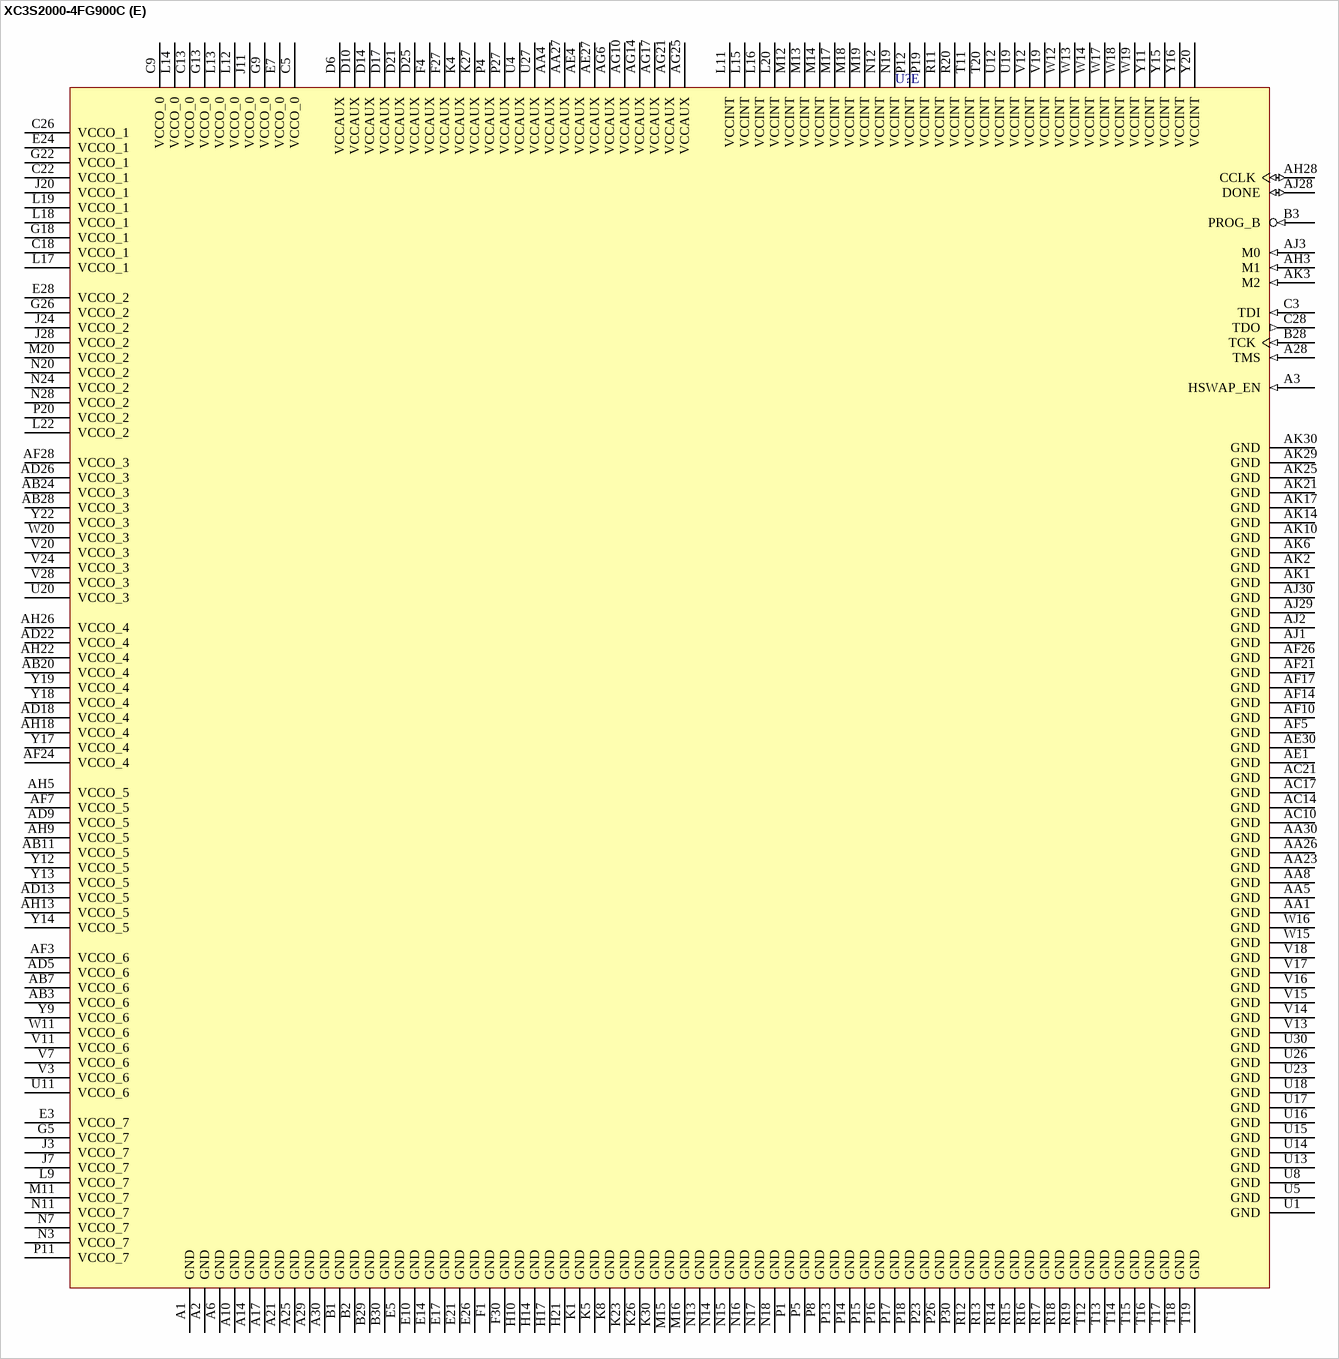
[diagram p88: symbol XC3S2000-4FG900C]

## XC3S2000-4FG900C
designator U?
Spartan-3 1.2V FPGA, 565 User I/Os, 900-ball FBGA, Standard Performance, Commercial Grade; PackageDocument: ver1.1, Apr-2001; Published: 17-Sep-2003; DatasheetDocument: 04-Mar-2004; PackageReference: FG900; Publisher: Altium Limited; Code_IPC: PBGA 31X31 FE900
footprint FG900 (900-Ball Fine Pitch Ball Grid Array (FG900))
3D model XC3S2000-FG900 (900-Ball Fine Pitch Ball Grid Array (FG900))
signal-integrity model XC3S2000_FG900 (Spartan-3)
part A pins: A4 IO_L01P_0/VRN_0 (io), A5 IO_L02P_0 (io), A7 NC, A8 IO_L09P_0 (io), A9 NC, A11 IO_L17P_0 (io), A12 IO_L22P_0 (io), A13 IO_L25P_0 (io), A15 IO_L32P_0/GCLK6 (io), A16 IO (io), A18 NC, A19 IO_L26N_1 (io), A20 IO_L21N_1 (io), A22 IO_L15N_1 (io), A23 IO_L11N_1 (io), A24 IO_L07N_1 (io), A26 IO_L03N_1 (io), A27 IO_L01N_1/VRP_1 (io), B4 IO_L01N_0/VRP_0 (io), B5 IO_L02N_0 (io), B6 IO_L04P_0 (io), B7 NC, B8 IO_L09N_0 (io), B9 NC, B10 IO_L12P_0 (io), B11 IO_L17N_0 (io), B12 IO_L22N_0 (io), B13 IO_L25N_0 (io), B14 IO_L28P_0 (io), B15 IO_L32N_0/GCLK7 (io), B16 IO_L32N_1/GCLK5 (io), B17 IO_L28N_1 (io), B18 NC, B19 IO_L26P_1 (io), B20 IO_L21P_1 (io), B21 IO_L17N_1/VREF_1 (io), B22 IO_L15P_1 (io), B23 IO_L11P_1 (io), B24 IO_L07P_1 (io), B25 IO_L04N_1 (io), B26 IO_L03P_1 (io), B27 IO_L01P_1/VRN_1 (io), C4 IO/VREF_0 (io), C6 IO_L04N_0 (io), C7 IO_L06P_0 (io), C8 IO_L08P_0 (io), C10 IO_L12N_0 (io), C11 IO_L16P_0 (io), C12 IO_L21P_0 (io), C14 IO_L28N_0 (io), C15 IO_L31P_0/VREF_0 (io), C16 IO_L32P_1/GCLK4 (io), C17 IO_L28P_1 (io), C19 IO_L25N_1 (io), C20 IO_L20N_1 (io), C21 IO_L17P_1 (io), C23 IO_L10N_1/VREF_1 (io), C24 IO_L06N_1/VREF_1 (io), C25 IO_L04P_1 (io), C27 IO_L02P_1 (io), D5 IO_L03N_0 (io), D7 IO_L06N_0 (io), D8 IO_L08N_0 (io), D9 NC, D11 IO_L16N_0 (io), D12 IO_L21N_0 (io), D13 IO (io), D15 IO_L31N_0 (io), D16 IO_L31N_1/VREF_1 (io), D18 NC, D19 IO_L25P_1 (io), D20 IO_L20P_1 (io), D22 IO_L14N_1 (io), D23 IO_L10P_1 (io), D24 IO_L06P_1 (io), D26 IO_L02N_1 (io), E6 IO_L03P_0 (io), E8 IO_L07P_0 (io), E9 NC, E11 IO_L15P_0 (io), E12 IO_L20P_0 (io), E13 IO_L24P_0 (io), E15 IO (io), E16 IO_L31P_1 (io), E18 NC, E19 IO_L24N_1 (io), E20 IO_L19N_1 (io), E22 IO_L14P_1 (io), E23 IO_L13P_1 (io), E25 IO (io), F6 IO_L05N_0 (io), F7 IO_L05P_0/VREF_0 (io), F8 IO_L07N_0 (io), F9 IO/VREF_0 (io), F10 IO_L11P_0 (io), F11 IO_L15N_0 (io), F12 IO_L20N_0 (io), F13 IO_L24N_0 (io), F14 IO_L27P_0 (io), F15 IO_L30P_0 (io), F16 IO (io), F17 IO_L27N_1 (io), F18 IO (io), F19 IO_L24P_1 (io), F20 IO_L19P_1 (io), F21 IO_L16N_1 (io), F22 IO_L13N_1 (io), F23 IO_L09N_1 (io), F24 IO_L05N_1 (io), F25 IO_L05P_1 (io), G7 NC, G8 IO (io), G10 IO_L11N_0 (io), G11 IO_L14P_0 (io), G12 IO_L19P_0 (io), G14 IO_L27N_0 (io), G15 IO_L30N_0 (io), G16 IO_L30N_1 (io), G17 IO_L27P_1 (io), G19 IO_L23N_1 (io), G20 IO_L18N_1 (io), G21 IO_L16P_1 (io), G23 IO_L09P_1 (io), G24 IO_L08P_1 (io), H8 NC, H9 IO_L10P_0 (io), H11 IO_L14N_0 (io), H12 IO_L19N_0 (io), H13 IO_L23P_0 (io), H15 IO_L29P_0 (io), H16 IO_L30P_1 (io), H18 NC, H19 IO_L23P_1 (io), H20 IO_L18P_1 (io), H22 IO_L12N_1 (io), H23 IO_L08N_1 (io), J9 IO_L10N_0 (io), J10 IO_L13N_0 (io), J12 IO_L18P_0 (io), J13 IO_L23N_0 (io), J14 IO_L26P_0/VREF_0 (io), J15 IO_L29N_0 (io), J16 IO_L29N_1 (io), J17 IO/VREF_1 (io), J18 NC, J19 IO_L22N_1 (io), J21 IO (io), J22 IO_L12P_1 (io), K11 IO_L13P_0 (io), K12 IO_L18N_0 (io), K13 IO (io), K14 IO_L26N_0 (io), K15 IO (io), K16 IO_L29P_1 (io), K17 NC, K18 NC, K19 IO_L22P_1 (io), K20 IO (io)
part B pins: AA21 IO_L20P_3 (io), AA22 IO_L16N_3 (io), AA24 IO_L17P_3/VREF_3 (io), AA25 IO_L17N_3 (io), AA28 IO_L19P_3 (io), AA29 IO_L19N_3 (io), AB23 IO_L16P_3 (io), AB25 IO (io), AB26 IO_L14P_3 (io), AB27 IO_L14N_3 (io), AB29 IO_L15P_3 (io), AB30 IO_L15N_3 (io), AC24 IO_L09N_3 (io), AC25 IO_L10P_3 (io), AC26 IO_L10N_3 (io), AC27 IO_L11P_3 (io), AC28 IO_L11N_3 (io), AC29 IO_L13P_3 (io), AC30 IO_L13N_3/VREF_3 (io), AD25 IO_L09P_3/VREF_3 (io), AD27 IO_L07P_3 (io), AD28 IO_L07N_3 (io), AD29 IO_L08P_3 (io), AD30 IO_L08N_3 (io), AE26 IO_L05N_3 (io), AE28 IO_L06P_3 (io), AE29 IO_L06N_3 (io), AF27 IO_L05P_3 (io), AF29 IO_L04P_3 (io), AF30 IO_L04N_3 (io), AG27 IO_L02P_3 (io), AG28 IO_L02N_3/VREF_3 (io), AG29 IO_L03P_3 (io), AG30 IO_L03N_3 (io), AH29 IO_L01P_3/VRN_3 (io), AH30 IO_L01N_3/VRP_3 (io), C29 IO_L01N_2/VRP_2 (io), C30 IO_L01P_2/VRN_2 (io), D27 IO_L02N_2 (io), D28 IO_L02P_2 (io), D29 IO_L03N_2/VREF_2 (io), D30 IO_L03P_2 (io), E27 NC, E29 IO_L04N_2 (io), E30 IO_L04P_2 (io), F26 NC, F28 IO_L05N_2 (io), F29 IO_L05P_2 (io), G25 IO_L08N_2 (io), G27 IO_L06N_2 (io), G28 IO_L06P_2 (io), G29 IO_L07N_2 (io), G30 IO_L07P_2 (io), H24 IO_L08P_2 (io), H25 IO_L09N_2/VREF_2 (io), H26 IO_L09P_2 (io), H27 IO_L10N_2 (io), H28 IO_L10P_2 (io), H29 IO_L12N_2 (io), H30 IO_L12P_2 (io), J23 IO_L15N_2 (io), J25 IO (io), J26 IO_L13N_2 (io), J27 IO_L13P_2/VREF_2 (io), J29 IO_L14N_2 (io), J30 IO_L14P_2 (io), K21 NC, K22 IO_L15P_2 (io), K24 IO_L16N_2 (io), K25 IO_L16P_2 (io), K28 NC, K29 NC, L21 NC, L23 NC, L24 NC, L25 IO_L19N_2 (io), L26 IO_L19P_2 (io), L27 IO_L20N_2 (io), L28 IO_L20P_2 (io), L29 IO_L21N_2 (io), L30 IO_L21P_2 (io), M21 IO_L26N_2 (io), M22 IO_L22N_2 (io), M23 IO_L22P_2 (io), M24 IO_L23N_2/VREF_2 (io), M25 IO_L23P_2 (io), M26 IO_L28N_2 (io), M27 IO_L24N_2 (io), M28 IO_L24P_2 (io), M29 NC, M30 NC, N21 IO_L26P_2 (io), N22 IO_L27N_2 (io), N23 IO_L27P_2 (io), N25 IO_L28P_2 (io), N26 IO_L29N_2 (io), N27 IO_L29P_2 (io), N29 IO_L31N_2 (io), N30 IO_L31P_2 (io), P21 IO_L32N_2 (io), P22 IO_L32P_2 (io), P24 IO_L33N_2 (io), P25 IO_L33P_2 (io), P28 IO_L34N_2/VREF_2 (io), P29 IO_L34P_2 (io), R21 IO_L35N_2 (io), R22 IO_L35P_2 (io), R23 IO_L37N_2 (io), R24 IO_L37P_2 (io), R25 IO_L38N_2 (io), R26 IO_L38P_2 (io), R27 IO_L39N_2 (io), R28 IO_L39P_2 (io), R29 IO_L40N_2 (io), R30 IO_L40P_2/VREF_2 (io), T21 IO_L35P_3 (io), T22 IO_L35N_3 (io), T23 IO_L37P_3 (io), T24 IO_L37N_3 (io), T25 IO_L38P_3 (io), T26 IO_L38N_3 (io), T27 IO_L39P_3 (io), T28 IO_L39N_3 (io), T29 IO_L40P_3 (io), T30 IO_L40N_3/VREF_3 (io), U21 IO_L32P_3 (io), U22 IO_L32N_3 (io), U24 IO_L33P_3 (io), U25 IO_L33N_3 (io), U28 IO_L34P_3/VREF_3 (io), U29 IO_L34N_3 (io), V21 IO_L27N_3 (io), V22 IO_L28P_3 (io), V23 IO_L28N_3 (io), V25 IO_L29N_3 (io), V26 NC, V27 NC, V29 IO_L31P_3 (io), V30 IO_L31N_3 (io), W21 IO_L27P_3 (io), W22 NC, W23 NC, W24 NC, W25 NC, W26 IO_L29P_3 (io), W27 NC, W28 NC, W29 IO_L26P_3 (io), W30 IO_L26N_3 (io), Y21 IO_L20N_3 (io), Y23 IO_L21P_3 (io), Y24 IO_L21N_3 (io), Y25 IO_L22P_3 (io), Y26 IO_L22N_3 (io), Y27 IO_L23P_3/VREF_3 (io), Y28 IO_L23N_3 (io), Y29 IO_L24P_3 (io), Y30 IO_L24N_3 (io)
part C pins: AA11 IO (io), AA12 IO_L22P_5 (io), AA13 IO_L22N_5 (io), AA14 IO_L26P_5 (io), AA15 IO (io), AA16 IO (io), AA17 IO_L26N_4 (io), AA18 IO (io), AA19 IO_L18N_4 (io), AA20 IO_L13P_4 (io), AB9 IO_L08P_5 (io), AB10 IO (io), AB12 IO_L17N_5 (io), AB13 IO_L23P_5 (io), AB14 IO_L26N_5 (io), AB15 IO_L29P_5/VREF_5 (io), AB16 IO_L29N_4 (io), AB17 IO_L26P_4/VREF_4 (io), AB18 IO_L23N_4 (io), AB19 IO_L18P_4 (io), AB21 IO_L13N_4 (io), AB22 IO_L08N_4 (io), AC8 NC, AC9 IO_L08N_5 (io), AC11 IO_L17P_5 (io), AC12 IO_L18P_5 (io), AC13 IO_L23N_5 (io), AC15 IO_L29N_5 (io), AC16 IO_L29P_4 (io), AC18 IO_L23P_4 (io), AC19 IO_L19N_4 (io), AC20 IO_L14N_4 (io), AC22 IO_L08P_4 (io), AC23 IO_L04P_4 (io), AD7 IO_L05P_5 (io), AD8 NC, AD10 IO_L13P_5 (io), AD11 IO_L13N_5 (io), AD12 IO_L18N_5 (io), AD14 IO_L30P_5 (io), AD15 IO_L30N_5 (io), AD16 IO_L30N_4/D2 (io), AD17 IO_L27N_4/DIN/D0 (io), AD19 IO_L19P_4 (io), AD20 IO_L14P_4 (io), AD21 IO_L11N_4 (io), AD23 IO (io), AD24 IO_L04N_4 (io), AE6 IO (io), AE7 IO_L05N_5 (io), AE8 NC, AE9 IO_L11P_5 (io), AE10 IO_L11N_5/VREF_5 (io), AE11 IO_L14P_5 (io), AE12 IO_L19P_5/VREF_5 (io), AE13 IO_L27P_5 (io), AE14 IO_L27N_5/VREF_5 (io), AE15 IO (io), AE16 IO_L30P_4/D3 (io), AE17 IO_L27P_4/D1 (io), AE18 IO_L24N_4 (io), AE19 IO_L20N_4 (io), AE20 IO_L15N_4 (io), AE21 IO_L11P_4 (io), AE22 IO (io), AE23 IO_L05N_4 (io), AE24 NC, AE25 NC, AF6 IO_L03N_5 (io), AF8 NC, AF9 IO_L09P_5 (io), AF11 IO_L14N_5 (io), AF12 IO_L19N_5 (io), AF13 IO_L24P_5 (io), AF15 IO_L31P_5/D5 (io), AF16 IO/VREF_4 (io), AF18 IO_L24P_4 (io), AF19 IO_L20P_4 (io), AF20 IO_L15P_4 (io), AF22 IO_L09N_4 (io), AF23 IO_L05P_4 (io), AF25 IO_L03P_4 (io), AG5 IO_L03P_5 (io), AG7 IO_L06P_5 (io), AG8 NC, AG9 IO_L09N_5 (io), AG11 IO_L15P_5 (io), AG12 IO_L20P_5 (io), AG13 IO_L24N_5 (io), AG15 IO_L31N_5/D4 (io), AG16 IO_L31N_4/INIT_B (io), AG18 IO (io), AG19 IO_L21N_4 (io), AG20 IO_L16N_4 (io), AG22 IO_L09P_4 (io), AG23 IO_L06N_4/VREF_4 (io), AG24 NC, AG26 IO_L03N_4 (io), AH4 IO/VREF_5 (io), AH6 IO_L04P_5 (io), AH7 IO_L06N_5 (io), AH8 NC, AH10 IO_L12P_5 (io), AH11 IO_L15N_5 (io), AH12 IO_L20N_5 (io), AH14 IO_L28P_5/D7 (io), AH15 IO_L32P_5/GCLK2 (io), AH16 IO_L31P_4/DOUT/BUSY (io), AH17 IO_L28N_4 (io), AH19 IO_L21P_4 (io), AH20 IO_L16P_4 (io), AH21 IO_L12N_4 (io), AH23 IO_L06P_4 (io), AH24 NC, AH25 NC, AH27 IO (io), AJ4 IO_L01P_5/CS_B (io), AJ5 IO_L02P_5 (io), AJ6 IO_L04N_5 (io), AJ7 NC, AJ8 IO_L07P_5 (io), AJ9 IO_L10P_5/VRN_5 (io), AJ10 IO_L12N_5 (io), AJ11 IO_L16P_5 (io), AJ12 IO_L21P_5 (io), AJ13 IO_L25P_5 (io), AJ14 IO_L28N_5/D6 (io), AJ15 IO_L32N_5/GCLK3 (io), AJ16 IO_L32N_4/GCLK1 (io), AJ17 IO_L28P_4 (io), AJ18 IO_L25N_4 (io), AJ19 IO_L22N_4/VREF_4 (io), AJ20 IO_L17N_4 (io), AJ21 IO_L12P_4 (io), AJ22 IO_L10N_4 (io), AJ23 IO_L07N_4 (io), AJ24 NC, AJ25 NC, AJ26 IO_L02N_4 (io), AJ27 IO_L01N_4/VRP_4 (io), AK4 IO_L01N_5/RDWR_B (io), AK5 IO_L02N_5 (io), AK7 NC, AK8 IO_L07N_5 (io), AK9 IO_L10N_5/VRP_5 (io), AK11 IO_L16N_5 (io), AK12 IO_L21N_5 (io), AK13 IO_L25N_5 (io), AK15 IO/VREF_5 (io), AK16 IO_L32P_4/GCLK0 (io), AK18 IO_L25P_4 (io), AK19 IO_L22P_4 (io), AK20 IO_L17P_4 (io), AK22 IO_L10P_4 (io), AK23 IO_L07P_4 (io), AK24 NC, AK26 IO_L02P_4 (io), AK27 IO_L01P_4/VRN_4 (io), AK28 IO/VREF_4 (io)
part D pins: AA2 IO_L19P_6 (io), AA3 IO_L19N_6 (io), AA6 IO_L17P_6/VREF_6 (io), AA7 IO_L17N_6 (io), AA9 IO_L16P_6 (io), AA10 IO_L20N_6 (io), AB1 IO_L15P_6 (io), AB2 IO_L15N_6 (io), AB4 IO_L14P_6 (io), AB5 IO_L14N_6 (io), AB6 IO (io), AB8 IO_L16N_6 (io), AC1 IO_L13P_6/VREF_6 (io), AC2 IO_L13N_6 (io), AC3 IO_L11P_6 (io), AC4 IO_L11N_6 (io), AC5 IO_L10P_6 (io), AC6 IO_L10N_6 (io), AC7 IO_L09P_6 (io), AD1 IO_L08P_6 (io), AD2 IO_L08N_6 (io), AD3 IO_L07P_6 (io), AD4 IO_L07N_6 (io), AD6 IO_L09N_6/VREF_6 (io), AE2 IO_L06P_6 (io), AE3 IO_L06N_6 (io), AE5 IO_L05P_6 (io), AF1 IO_L04P_6 (io), AF2 IO_L04N_6 (io), AF4 IO_L05N_6 (io), AG1 IO_L03P_6 (io), AG2 IO_L03N_6/VREF_6 (io), AG3 IO_L02P_6 (io), AG4 IO_L02N_6 (io), AH1 IO_L01P_6/VRN_6 (io), AH2 IO_L01N_6/VRP_6 (io), C1 IO_L01N_7/VRP_7 (io), C2 IO_L01P_7/VRN_7 (io), D1 IO_L03N_7/VREF_7 (io), D2 IO_L03P_7 (io), D3 IO_L02N_7 (io), D4 IO_L02P_7 (io), E1 IO_L04N_7 (io), E2 IO_L04P_7 (io), E4 IO_L05P_7 (io), F2 IO_L06N_7 (io), F3 IO_L06P_7 (io), F5 IO_L05N_7 (io), G1 IO_L08N_7 (io), G2 IO_L08P_7 (io), G3 IO_L07N_7 (io), G4 IO_L07P_7 (io), G6 IO_L09P_7 (io), H1 IO_L13N_7 (io), H2 IO_L13P_7 (io), H3 IO_L11N_7 (io), H4 IO_L11P_7 (io), H5 IO_L10N_7 (io), H6 IO_L10P_7/VREF_7 (io), H7 IO_L09N_7 (io), J1 IO_L15N_7 (io), J2 IO_L15P_7 (io), J4 IO_L14N_7 (io), J5 IO_L14P_7 (io), J6 IO (io), J8 IO_L16P_7/VREF_7 (io), K2 IO_L19N_7/VREF_7 (io), K3 IO_L19P_7 (io), K6 IO_L17N_7 (io), K7 IO_L17P_7 (io), K9 IO_L16N_7 (io), K10 IO_L20P_7 (io), L1 IO_L24N_7 (io), L2 IO_L24P_7 (io), L3 IO_L23N_7 (io), L4 IO_L23P_7 (io), L5 IO_L22N_7 (io), L6 IO_L22P_7 (io), L7 IO_L21N_7 (io), L8 IO_L21P_7 (io), L10 IO_L20N_7 (io), M1 IO_L27N_7 (io), M2 IO_L27P_7/VREF_7 (io), M3 IO_L26N_7 (io), M4 IO_L26P_7 (io), M5 NC, M6 NC, M7 NC, M8 NC, M9 NC, M10 IO_L28P_7 (io), N1 IO_L31N_7 (io), N2 IO_L31P_7 (io), N4 NC, N5 NC, N6 NC, N8 IO_L29N_7 (io), N9 IO_L29P_7 (io), N10 IO_L28N_7 (io), P2 IO_L34N_7 (io), P3 IO_L34P_7 (io), P6 IO_L33N_7 (io), P7 IO_L33P_7 (io), P9 IO_L32N_7 (io), P10 IO_L32P_7 (io), R1 IO_L40N_7/VREF_7 (io), R2 IO_L40P_7 (io), R3 IO_L39N_7 (io), R4 IO_L39P_7 (io), R5 IO_L38N_7 (io), R6 IO_L38P_7 (io), R7 IO_L37N_7 (io), R8 IO_L37P_7/VREF_7 (io), R9 IO_L35N_7 (io), R10 IO_L35P_7 (io), T1 IO_L40P_6/VREF_6 (io), T2 IO_L40N_6 (io), T3 IO_L39P_6 (io), T4 IO_L39N_6 (io), T5 IO_L38P_6 (io), T6 IO_L38N_6 (io), T7 NC, T8 NC, T9 IO_L37P_6 (io), T10 IO_L37N_6 (io), U2 NC, U3 NC, U6 IO_L35P_6 (io), U7 IO_L35N_6 (io), U9 IO_L34P_6 (io), U10 IO_L34N_6/VREF_6 (io), V1 IO_L33P_6 (io), V2 IO_L33N_6 (io), V4 IO_L32P_6 (io), V5 IO_L32N_6 (io), V6 IO_L31P_6 (io), V8 NC, V9 NC, V10 IO_L29P_6 (io), W1 IO_L28P_6 (io), W2 IO_L28N_6 (io), W3 IO_L27P_6 (io), W4 IO_L27N_6 (io), W5 IO_L31N_6 (io), W6 IO_L26P_6 (io), W7 IO_L26N_6 (io), W8 NC, W9 NC, W10 IO_L29N_6 (io), Y1 IO_L24P_6 (io), Y2 IO_L24N_6/VREF_6 (io), Y3 NC, Y4 NC, Y5 IO_L22P_6 (io), Y6 IO_L22N_6 (io), Y7 IO_L21P_6 (io), Y8 IO_L21N_6 (io), Y10 IO_L20P_6 (io)
part E pins: A1 GND (power), A2 GND (power), A3 HSWAP_EN (in), A6 GND (power), A10 GND (power), A14 GND (power), A17 GND (power), A21 GND (power), A25 GND (power), A28 TMS (in), A29 GND (power), A30 GND (power), AA1 GND (power), AA4 VCCAUX (power), AA5 GND (power), AA8 GND (power), AA23 GND (power), AA26 GND (power), AA27 VCCAUX (power), AA30 GND (power), AB3 VCCO_6 (power), AB7 VCCO_6 (power), AB11 VCCO_5 (power), AB20 VCCO_4 (power), AB24 VCCO_3 (power), AB28 VCCO_3 (power), AC10 GND (power), AC14 GND (power), AC17 GND (power), AC21 GND (power), AD5 VCCO_6 (power), AD9 VCCO_5 (power), AD13 VCCO_5 (power), AD18 VCCO_4 (power), AD22 VCCO_4 (power), AD26 VCCO_3 (power), AE1 GND (power), AE4 VCCAUX (power), AE27 VCCAUX (power), AE30 GND (power), AF3 VCCO_6 (power), AF5 GND (power), AF7 VCCO_5 (power), AF10 GND (power), AF14 GND (power), AF17 GND (power), AF21 GND (power), AF24 VCCO_4 (power), AF26 GND (power), AF28 VCCO_3 (power), AG6 VCCAUX (power), AG10 VCCAUX (power), AG14 VCCAUX (power), AG17 VCCAUX (power), AG21 VCCAUX (power), AG25 VCCAUX (power), AH3 M1 (in), AH5 VCCO_5 (power), AH9 VCCO_5 (power), AH13 VCCO_5 (power), AH18 VCCO_4 (power), AH22 VCCO_4 (power), AH26 VCCO_4 (power), AH28 CCLK (io), AJ1 GND (power), AJ2 GND (power), AJ3 M0 (in), AJ28 DONE (io), AJ29 GND (power), AJ30 GND (power), AK1 GND (power), AK2 GND (power), AK3 M2 (in), AK6 GND (power), AK10 GND (power), AK14 GND (power), AK17 GND (power), AK21 GND (power), AK25 GND (power), AK29 GND (power), AK30 GND (power), B1 GND (power), B2 GND (power), B3 PROG_B (in), B28 TCK (in), B29 GND (power), B30 GND (power), C3 TDI (in), C5 VCCO_0 (power), C9 VCCO_0 (power), C13 VCCO_0 (power), C18 VCCO_1 (power), C22 VCCO_1 (power), C26 VCCO_1 (power), C28 TDO (out), D6 VCCAUX (power), D10 VCCAUX (power), D14 VCCAUX (power), D17 VCCAUX (power), D21 VCCAUX (power), D25 VCCAUX (power), E3 VCCO_7 (power), E5 GND (power), E7 VCCO_0 (power), E10 GND (power), E14 GND (power), E17 GND (power), E21 GND (power), E24 VCCO_1 (power), E26 GND (power), E28 VCCO_2 (power), F1 GND (power), F4 VCCAUX (power), F27 VCCAUX (power), F30 GND (power), G5 VCCO_7 (power), G9 VCCO_0 (power), G13 VCCO_0 (power), G18 VCCO_1 (power), G22 VCCO_1 (power), G26 VCCO_2 (power), H10 GND (power), H14 GND (power), H17 GND (power), H21 GND (power), J3 VCCO_7 (power), J7 VCCO_7 (power), J11 VCCO_0 (power), J20 VCCO_1 (power), J24 VCCO_2 (power), J28 VCCO_2 (power), K1 GND (power), K4 VCCAUX (power), K5 GND (power), K8 GND (power), K23 GND (power), K26 GND (power), K27 VCCAUX (power), K30 GND (power), L9 VCCO_7 (power), L11 VCCINT (power), L12 VCCO_0 (power), L13 VCCO_0 (power), L14 VCCO_0 (power), L15 VCCINT (power), L16 VCCINT (power), L17 VCCO_1 (power), L18 VCCO_1 (power), L19 VCCO_1 (power), L20 VCCINT (power), L22 VCCO_2 (power), M11 VCCO_7 (power), M12 VCCINT (power), M13 VCCINT (power), M14 VCCINT (power), M15 GND (power), M16 GND (power), M17 VCCINT (power), M18 VCCINT (power), M19 VCCINT (power), M20 VCCO_2 (power), N3 VCCO_7 (power), N7 VCCO_7 (power), N11 VCCO_7 (power), N12 VCCINT (power), N13 GND (power), N14 GND (power), N15 GND (power), N16 GND (power), N17 GND (power), N18 GND (power), N19 VCCINT (power), N20 VCCO_2 (power), N24 VCCO_2 (power), N28 VCCO_2 (power), P1 GND (power), P4 VCCAUX (power), P5 GND (power), P8 GND (power), P11 VCCO_7 (power), P12 VCCINT (power), P13 GND (power), P14 GND (power), P15 GND (power), P16 GND (power), P17 GND (power), P18 GND (power), P19 VCCINT (power), P20 VCCO_2 (power), P23 GND (power), P26 GND (power), P27 VCCAUX (power), P30 GND (power), R11 VCCINT (power), R12 GND (power), R13 GND (power), R14 GND (power), R15 GND (power), R16 GND (power), R17 GND (power), R18 GND (power), R19 GND (power), R20 VCCINT (power), T11 VCCINT (power), T12 GND (power), T13 GND (power), T14 GND (power), T15 GND (power), T16 GND (power), T17 GND (power), T18 GND (power), T19 GND (power), T20 VCCINT (power), U1 GND (power), U4 VCCAUX (power), U5 GND (power), U8 GND (power), U11 VCCO_6 (power), U12 VCCINT (power), U13 GND (power), U14 GND (power), U15 GND (power), U16 GND (power), U17 GND (power), U18 GND (power), U19 VCCINT (power), U20 VCCO_3 (power), U23 GND (power), U26 GND (power), U27 VCCAUX (power), U30 GND (power), V3 VCCO_6 (power), V7 VCCO_6 (power), V11 VCCO_6 (power), V12 VCCINT (power), V13 GND (power), V14 GND (power), V15 GND (power), V16 GND (power), V17 GND (power), V18 GND (power), V19 VCCINT (power), V20 VCCO_3 (power), V24 VCCO_3 (power), V28 VCCO_3 (power), W11 VCCO_6 (power), W12 VCCINT (power), W13 VCCINT (power), W14 VCCINT (power), W15 GND (power), W16 GND (power), W17 VCCINT (power), W18 VCCINT (power), W19 VCCINT (power), W20 VCCO_3 (power), Y9 VCCO_6 (power), Y11 VCCINT (power), Y12 VCCO_5 (power), Y13 VCCO_5 (power), Y14 VCCO_5 (power), Y15 VCCINT (power), Y16 VCCINT (power), Y17 VCCO_4 (power), Y18 VCCO_4 (power), Y19 VCCO_4 (power), Y20 VCCINT (power), Y22 VCCO_3 (power)
part A text: BANK 0; BANK 1
part B text: BANK 2; BANK 3
part C text: BANK 4; BANK 5
part D text: BANK 6; BANK 7

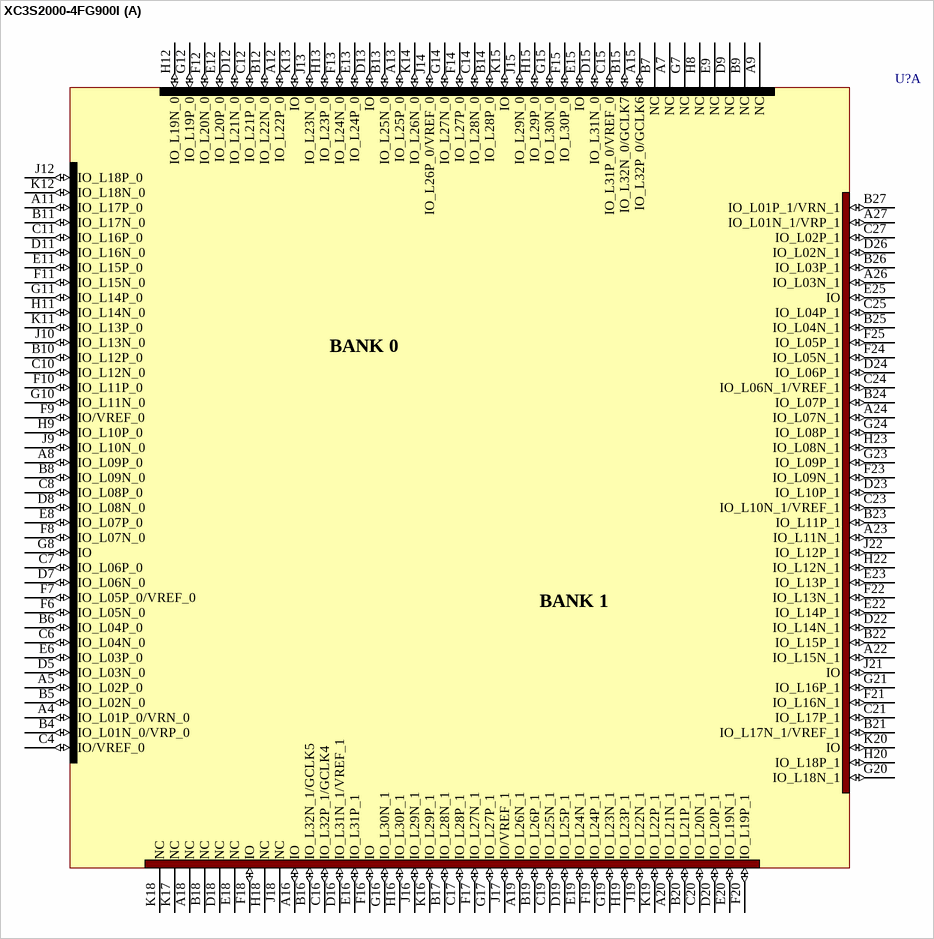
[diagram p89: symbol XC3S2000-4FG900I]

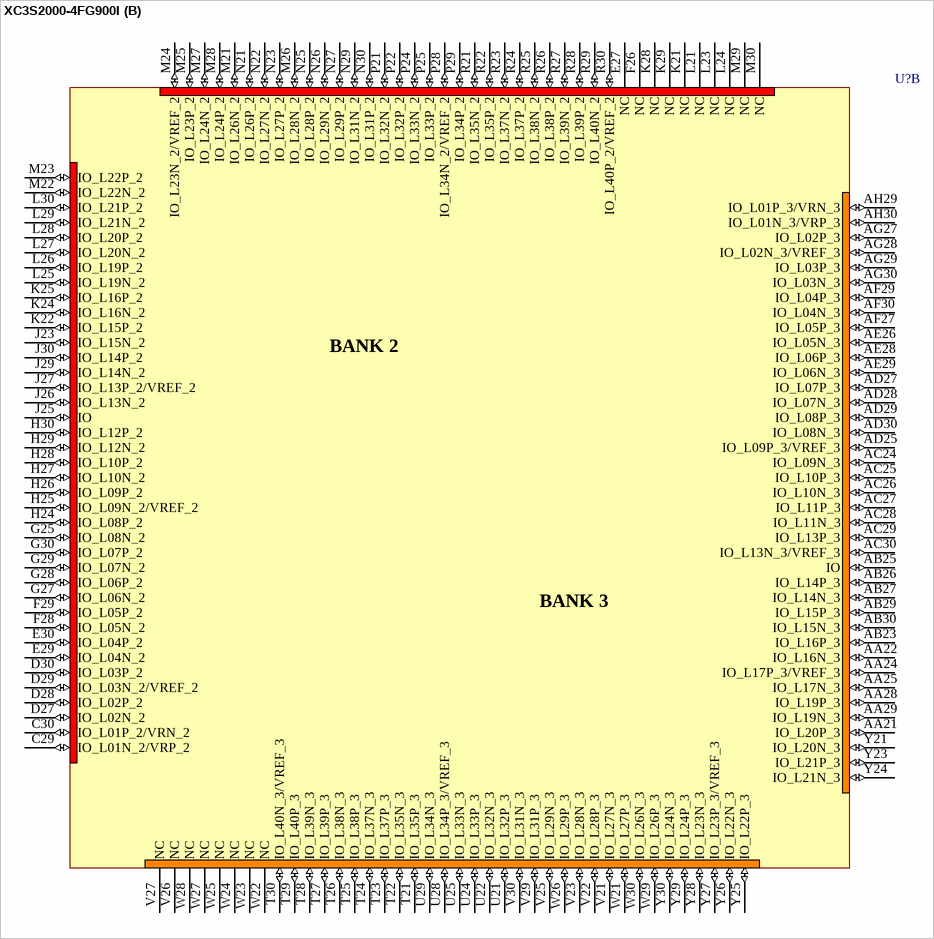
[diagram p90: symbol XC3S2000-4FG900I]

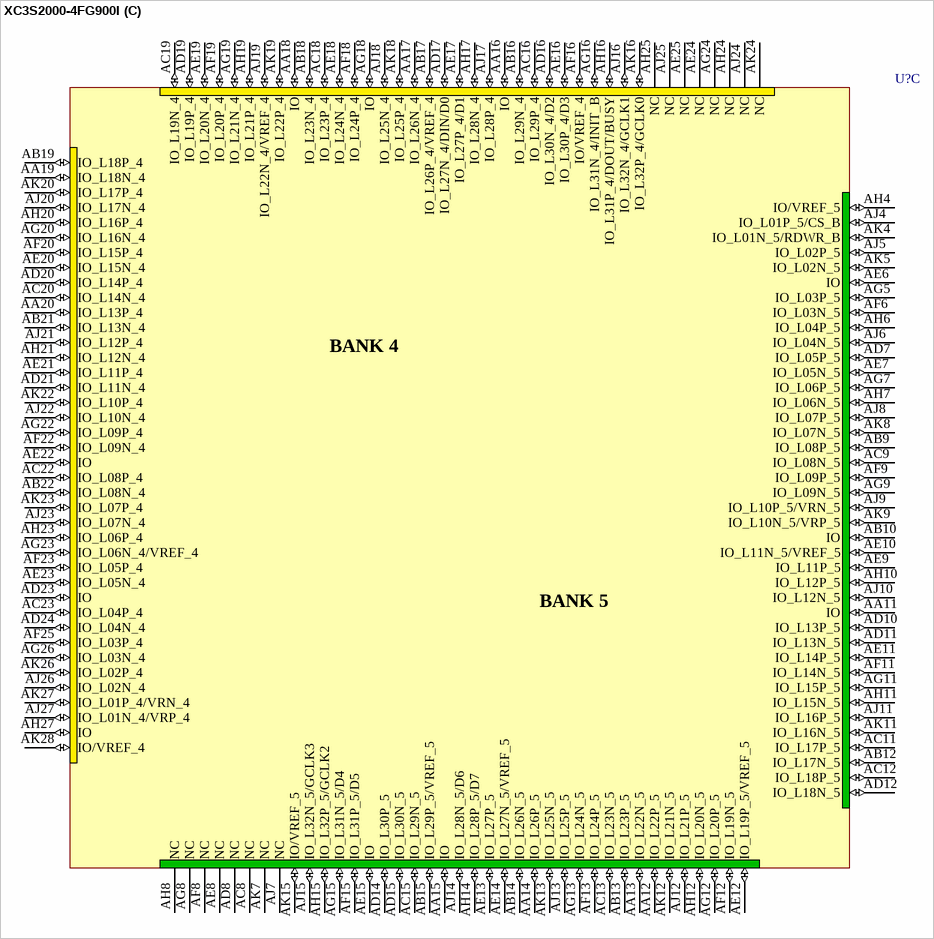
[diagram p91: symbol XC3S2000-4FG900I]

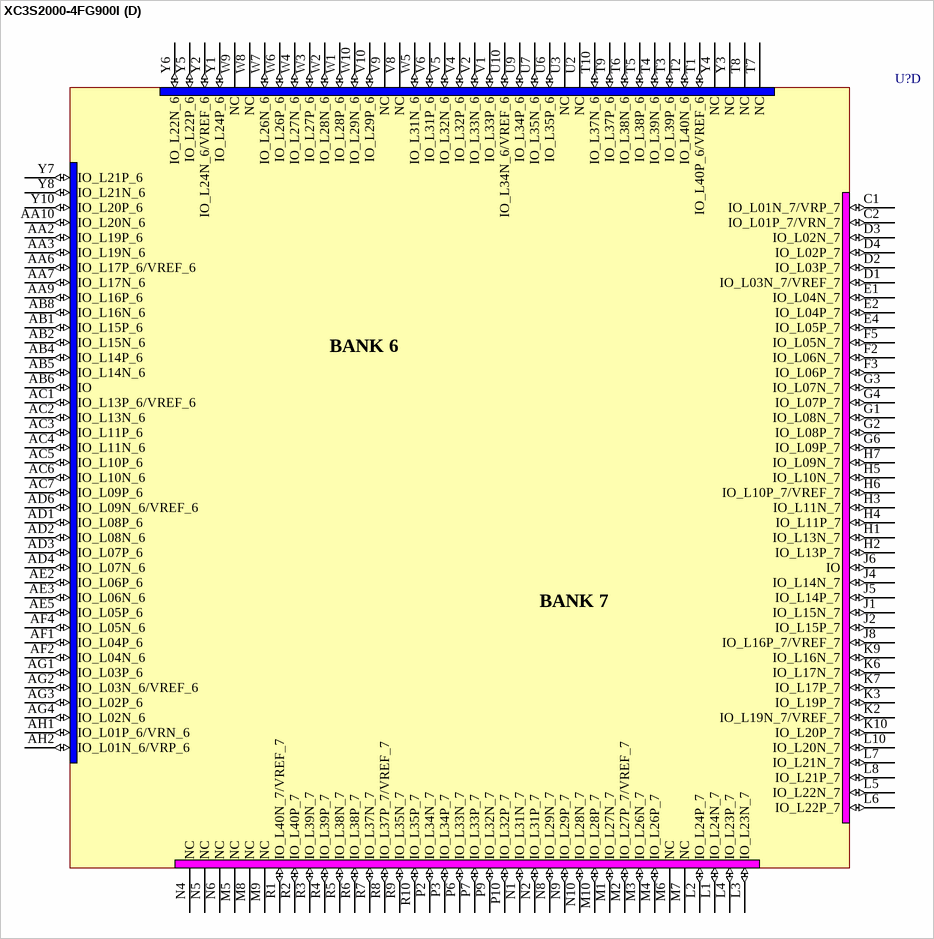
[diagram p92: symbol XC3S2000-4FG900I]

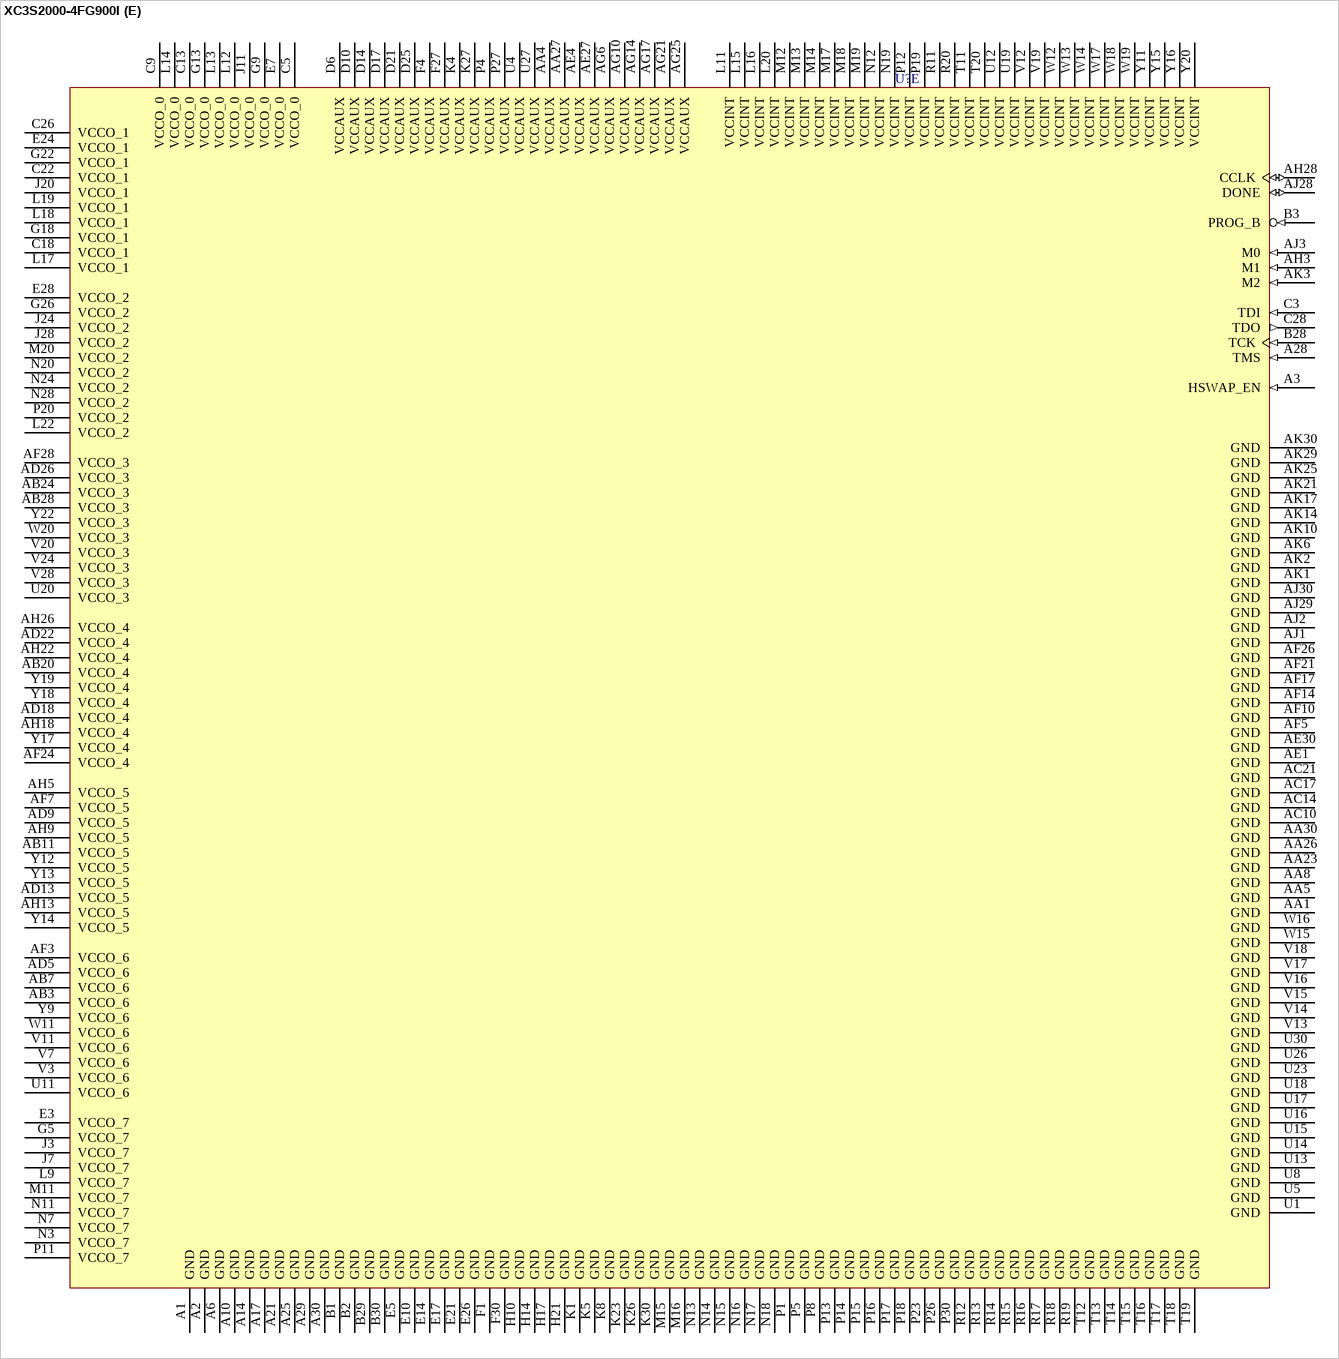
[diagram p93: symbol XC3S2000-4FG900I]